# Altium schematic symbol library MySchLib.SchLib: 286 symbols (part 3 of 5)
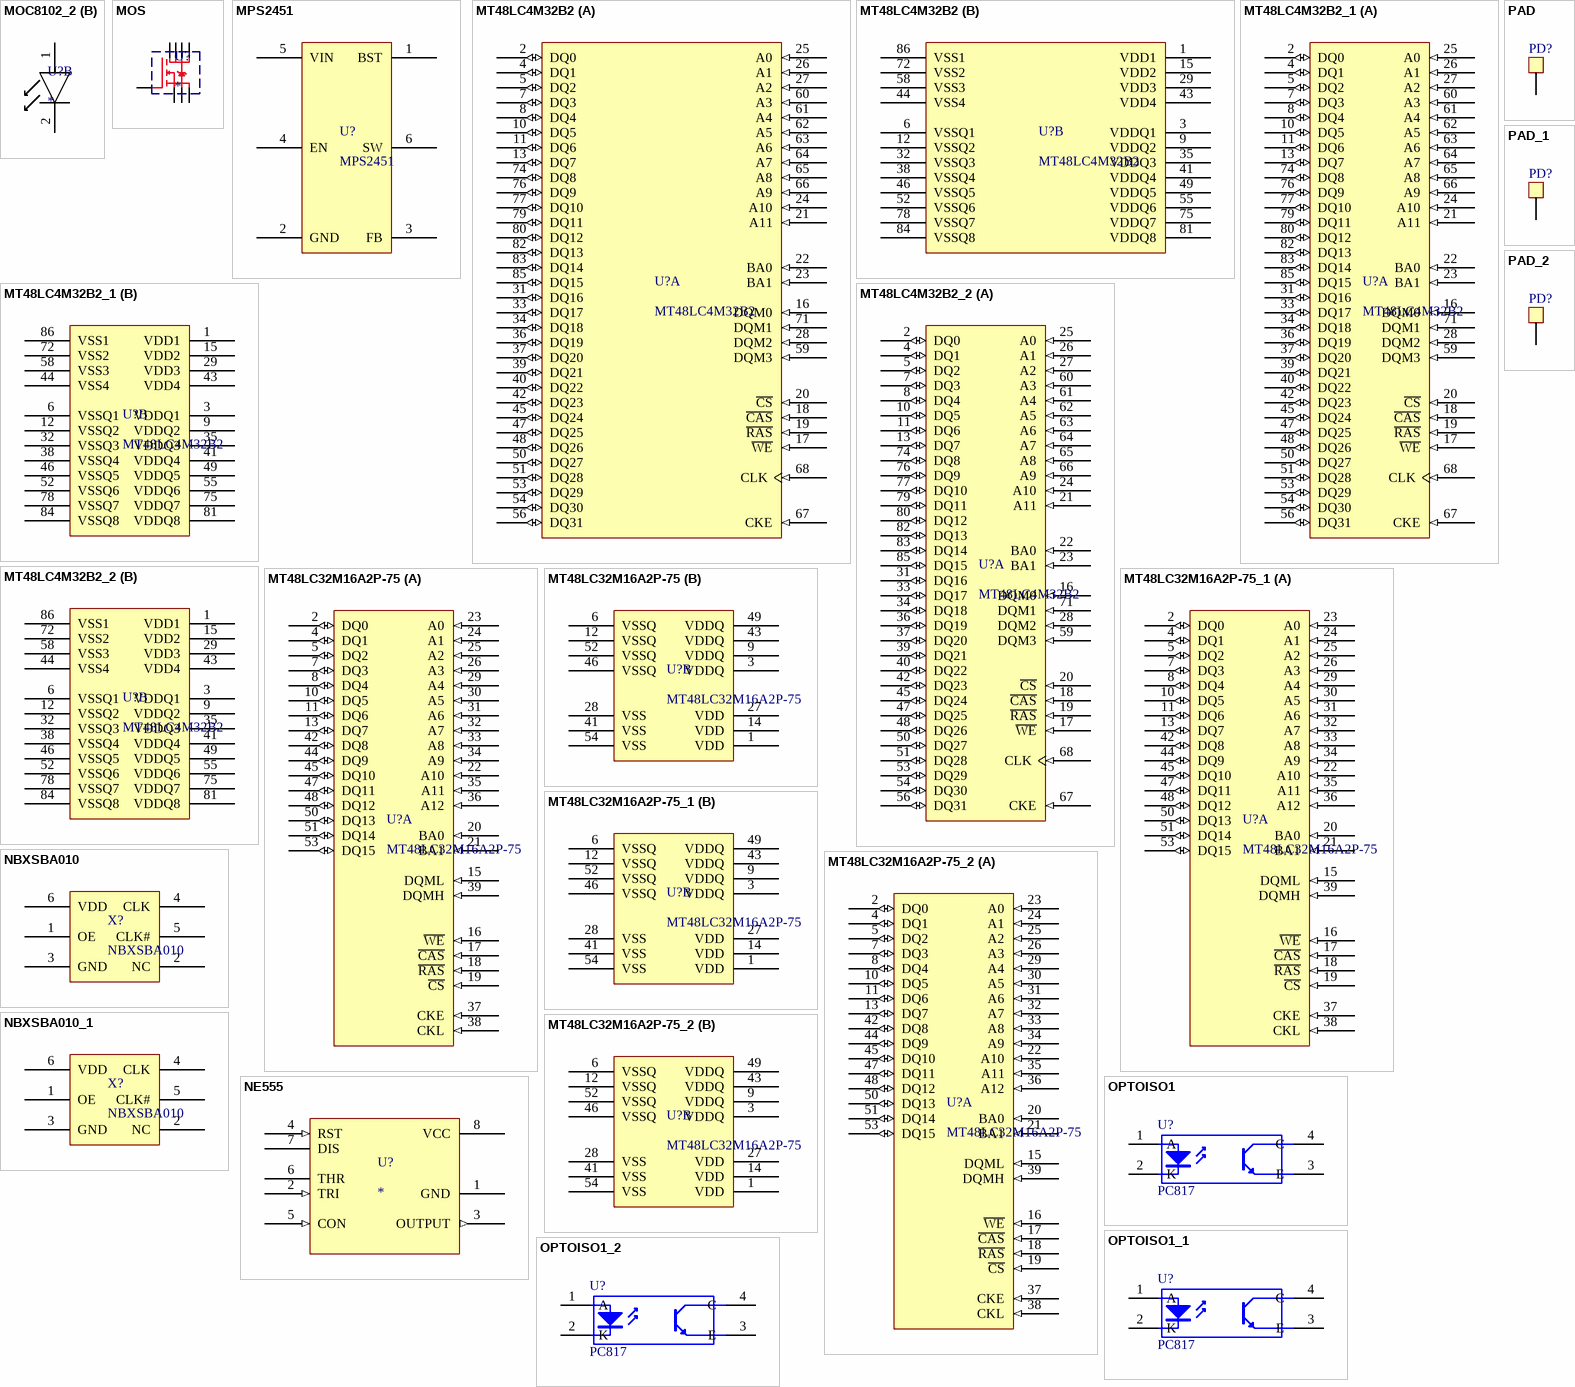
[diagram p31: symbols MOC8102_2 to PAD_2]

## MT48LC32M16A2P-75_2
designator U?, comment MT48LC32M16A2P-75
footprint TSOP54 (Footprint not found)
part A pins: 2 DQ0 (io), 4 DQ1 (io), 5 DQ2 (io), 7 DQ3 (io), 8 DQ4 (io), 10 DQ5 (io), 11 DQ6 (io), 13 DQ7 (io), 15 DQML (in), 16 ~{WE} (in), 17 ~{CAS} (in), 18 ~{RAS} (in), 19 ~{CS} (in), 20 BA0 (in), 21 BA1 (in), 22 A10 (in), 23 A0 (in), 24 A1 (in), 25 A2 (in), 26 A3 (in), 29 A4 (in), 30 A5 (in), 31 A6 (in), 32 A7 (in), 33 A8 (in), 34 A9 (in), 35 A11 (in), 36 A12 (in), 37 CKE (in), 38 CKL (in), 39 DQMH (in), 42 DQ8 (io), 44 DQ9 (io), 45 DQ10 (io), 47 DQ11 (io), 48 DQ12 (io), 50 DQ13 (io), 51 DQ14 (io), 53 DQ15 (io)
part B pins: 1 VDD (power), 3 VDDQ (power), 6 VSSQ (power), 9 VDDQ (power), 12 VSSQ (power), 14 VDD (power), 27 VDD (power), 28 VSS (power), 41 VSS (power), 43 VDDQ (power), 46 VSSQ (power), 49 VDDQ (power), 52 VSSQ (power), 54 VSS (power)

## NBXSBA010
designator X?
pins: 1 OE, 2 NC, 3 GND, 4 CLK, 5 CLK#, 6 VDD

## NBXSBA010_1
designator X?, comment NBXSBA010
pins: 1 OE, 2 NC, 3 GND, 4 CLK, 5 CLK#, 6 VDD

## NE555
designator U?
555 Timer
footprint DIP8
footprint SOP-8
pins: 1 GND (power), 2 TRI (in), 3 OUTPUT (out), 4 RST (in), 5 CON (in), 6 THR, 7 DIS, 8 VCC (power)

## OPTOISO1
designator U?, comment PC817
Optoisolator
footprint PDIP4
pins: 1 A, 2 K, 3 E, 4 C
2 alternate drawings of the same symbol

## OPTOISO1_1
designator U?, comment PC817
Optoisolator
footprint PDIP4
pins: 1 A, 2 K, 3 E, 4 C
2 alternate drawings of the same symbol

## OPTOISO1_2
designator U?, comment PC817
Optoisolator
footprint PDIP4
pins: 1 A, 2 K, 3 E, 4 C
2 alternate drawings of the same symbol

## PAD
designator PD?  (value not drawn)
footprint PAD5 (Footprint not found)
pins: 1

## PAD_1
designator PD?, comment PAD  (value not drawn)
footprint PAD5 (Footprint not found)
pins: 1

## PAD_2
designator PD?, comment PAD  (value not drawn)
footprint PAD5 (Footprint not found)
pins: 1

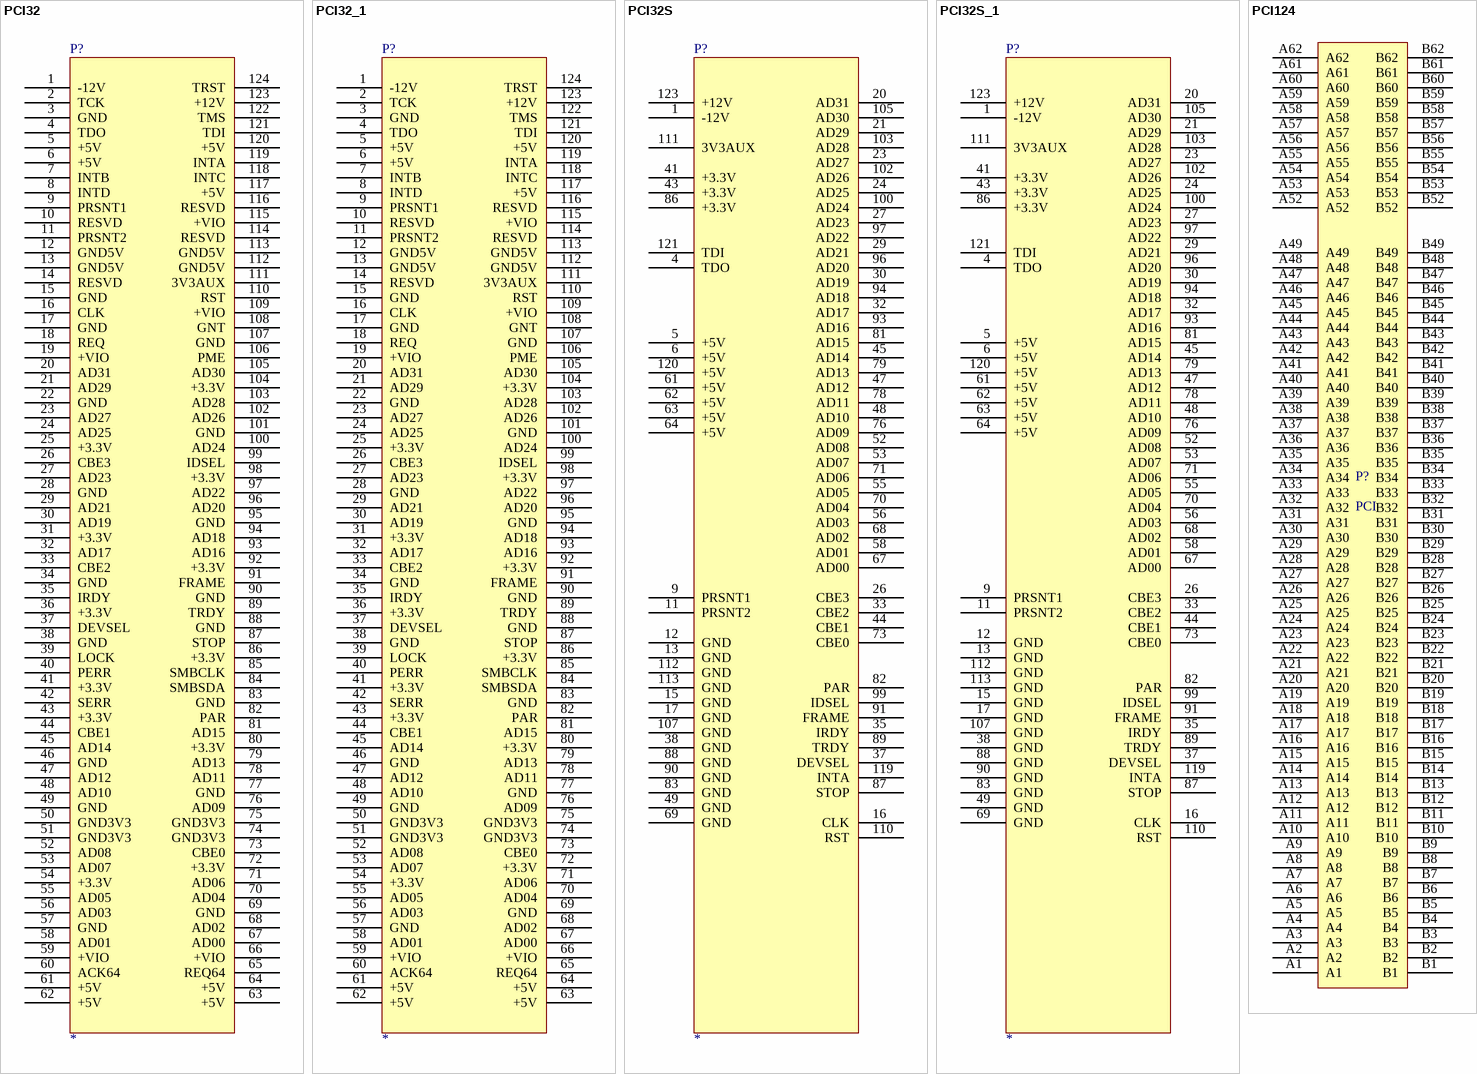
[diagram p12: symbols PCI32 to PCI124]

## PCI32
designator P?
32Bit PCI Bus
footprint PCI32
pins: 1 -12V, 2 TCK, 3 GND, 4 TDO, 5 +5V, 6 +5V, 7 INTB, 8 INTD, 9 PRSNT1, 10 RESVD, 11 PRSNT2, 12 GND5V, 13 GND5V, 14 RESVD, 15 GND, 16 CLK, 17 GND, 18 REQ, 19 +VIO, 20 AD31, 21 AD29, 22 GND, 23 AD27, 24 AD25, 25 +3.3V, 26 CBE3, 27 AD23, 28 GND, 29 AD21, 30 AD19, 31 +3.3V, 32 AD17, 33 CBE2, 34 GND, 35 IRDY, 36 +3.3V, 37 DEVSEL, 38 GND, 39 LOCK, 40 PERR, 41 +3.3V, 42 SERR, 43 +3.3V, 44 CBE1, 45 AD14, 46 GND, 47 AD12, 48 AD10, 49 GND, 50 GND3V3, 51 GND3V3, 52 AD08, 53 AD07, 54 +3.3V, 55 AD05, 56 AD03, 57 GND, 58 AD01, 59 +VIO, 60 ACK64, 61 +5V, 62 +5V, 63 +5V, 64 +5V, 65 REQ64, 66 +VIO, 67 AD00, 68 AD02, 69 GND, 70 AD04, 71 AD06, 72 +3.3V, 73 CBE0, 74 GND3V3, 75 GND3V3, 76 AD09, 77 GND, 78 AD11, 79 AD13, 80 +3.3V, 81 AD15, 82 PAR, 83 GND, 84 SMBSDA, 85 SMBCLK, 86 +3.3V, 87 STOP, 88 GND, 89 TRDY, 90 GND, 91 FRAME, 92 +3.3V, 93 AD16, 94 AD18, 95 GND, 96 AD20, 97 AD22, 98 +3.3V, 99 IDSEL, 100 AD24, 101 GND, 102 AD26, 103 AD28, 104 +3.3V, 105 AD30, 106 PME, 107 GND, 108 GNT, 109 +VIO, 110 RST, 111 3V3AUX, 112 GND5V, 113 GND5V, 114 RESVD, 115 +VIO, 116 RESVD, 117 +5V, 118 INTC, 119 INTA, 120 +5V, 121 TDI, 122 TMS, 123 +12V, 124 TRST

## PCI32_1
designator P?
32Bit PCI Bus
footprint PCI32
pins: 1 -12V, 2 TCK, 3 GND, 4 TDO, 5 +5V, 6 +5V, 7 INTB, 8 INTD, 9 PRSNT1, 10 RESVD, 11 PRSNT2, 12 GND5V, 13 GND5V, 14 RESVD, 15 GND, 16 CLK, 17 GND, 18 REQ, 19 +VIO, 20 AD31, 21 AD29, 22 GND, 23 AD27, 24 AD25, 25 +3.3V, 26 CBE3, 27 AD23, 28 GND, 29 AD21, 30 AD19, 31 +3.3V, 32 AD17, 33 CBE2, 34 GND, 35 IRDY, 36 +3.3V, 37 DEVSEL, 38 GND, 39 LOCK, 40 PERR, 41 +3.3V, 42 SERR, 43 +3.3V, 44 CBE1, 45 AD14, 46 GND, 47 AD12, 48 AD10, 49 GND, 50 GND3V3, 51 GND3V3, 52 AD08, 53 AD07, 54 +3.3V, 55 AD05, 56 AD03, 57 GND, 58 AD01, 59 +VIO, 60 ACK64, 61 +5V, 62 +5V, 63 +5V, 64 +5V, 65 REQ64, 66 +VIO, 67 AD00, 68 AD02, 69 GND, 70 AD04, 71 AD06, 72 +3.3V, 73 CBE0, 74 GND3V3, 75 GND3V3, 76 AD09, 77 GND, 78 AD11, 79 AD13, 80 +3.3V, 81 AD15, 82 PAR, 83 GND, 84 SMBSDA, 85 SMBCLK, 86 +3.3V, 87 STOP, 88 GND, 89 TRDY, 90 GND, 91 FRAME, 92 +3.3V, 93 AD16, 94 AD18, 95 GND, 96 AD20, 97 AD22, 98 +3.3V, 99 IDSEL, 100 AD24, 101 GND, 102 AD26, 103 AD28, 104 +3.3V, 105 AD30, 106 PME, 107 GND, 108 GNT, 109 +VIO, 110 RST, 111 3V3AUX, 112 GND5V, 113 GND5V, 114 RESVD, 115 +VIO, 116 RESVD, 117 +5V, 118 INTC, 119 INTA, 120 +5V, 121 TDI, 122 TMS, 123 +12V, 124 TRST

## PCI32S
designator P?
32Bit PCI Bus, simple / short card
footprint PCI32
footprint PCI32S
pins: 1 -12V, 4 TDO, 5 +5V, 6 +5V, 9 PRSNT1, 11 PRSNT2, 12 GND, 13 GND, 15 GND, 16 CLK, 17 GND, 20 AD31, 21 AD29, 23 AD27, 24 AD25, 26 CBE3, 27 AD23, 29 AD21, 30 AD19, 32 AD17, 33 CBE2, 35 IRDY, 37 DEVSEL, 38 GND, 41 +3.3V, 43 +3.3V, 44 CBE1, 45 AD14, 47 AD12, 48 AD10, 49 GND, 52 AD08, 53 AD07, 55 AD05, 56 AD03, 58 AD01, 61 +5V, 62 +5V, 63 +5V, 64 +5V, 67 AD00, 68 AD02, 69 GND, 70 AD04, 71 AD06, 73 CBE0, 76 AD09, 78 AD11, 79 AD13, 81 AD15, 82 PAR, 83 GND, 86 +3.3V, 87 STOP, 88 GND, 89 TRDY, 90 GND, 91 FRAME, 93 AD16, 94 AD18, 96 AD20, 97 AD22, 99 IDSEL, 100 AD24, 102 AD26, 103 AD28, 105 AD30, 107 GND, 110 RST, 111 3V3AUX, 112 GND, 113 GND, 119 INTA, 120 +5V, 121 TDI, 123 +12V

## PCI32S_1
designator P?
32Bit PCI Bus, simple / short card
footprint PCI32
footprint PCI32S
pins: 1 -12V, 4 TDO, 5 +5V, 6 +5V, 9 PRSNT1, 11 PRSNT2, 12 GND, 13 GND, 15 GND, 16 CLK, 17 GND, 20 AD31, 21 AD29, 23 AD27, 24 AD25, 26 CBE3, 27 AD23, 29 AD21, 30 AD19, 32 AD17, 33 CBE2, 35 IRDY, 37 DEVSEL, 38 GND, 41 +3.3V, 43 +3.3V, 44 CBE1, 45 AD14, 47 AD12, 48 AD10, 49 GND, 52 AD08, 53 AD07, 55 AD05, 56 AD03, 58 AD01, 61 +5V, 62 +5V, 63 +5V, 64 +5V, 67 AD00, 68 AD02, 69 GND, 70 AD04, 71 AD06, 73 CBE0, 76 AD09, 78 AD11, 79 AD13, 81 AD15, 82 PAR, 83 GND, 86 +3.3V, 87 STOP, 88 GND, 89 TRDY, 90 GND, 91 FRAME, 93 AD16, 94 AD18, 96 AD20, 97 AD22, 99 IDSEL, 100 AD24, 102 AD26, 103 AD28, 105 AD30, 107 GND, 110 RST, 111 3V3AUX, 112 GND, 113 GND, 119 INTA, 120 +5V, 121 TDI, 123 +12V

## PCI124
designator P?, comment PCI
footprint PCI-124
pins: A1, A2, A3, A4, A5, A6, A7, A8, A9, A10, A11, A12, A13, A14, A15, A16, A17, A18, A19, A20, A21, A22, A23, A24, A25, A26, A27, A28, A29, A30, A31, A32, A33, A34, A35, A36, A37, A38, A39, A40, A41, A42, A43, A44, A45, A46, A47, A48, A49, A52, A53, A54, A55, A56, A57, A58, A59, A60, A61, A62, B1, B2, B3, B4, B5, B6, B7, B8, B9, B10, B11, B12, B13, B14, B15, B16, B17, B18, B19, B20, B21, B22, B23, B24, B25, B26, B27, B28, B29, B30, B31, B32, B33, B34, B35, B36, B37, B38, B39, B40, B41, B42, B43, B44, B45, B46, B47, B48, B49, B52, B53, B54, B55, B56, B57, B58, B59, B60, B61, B62

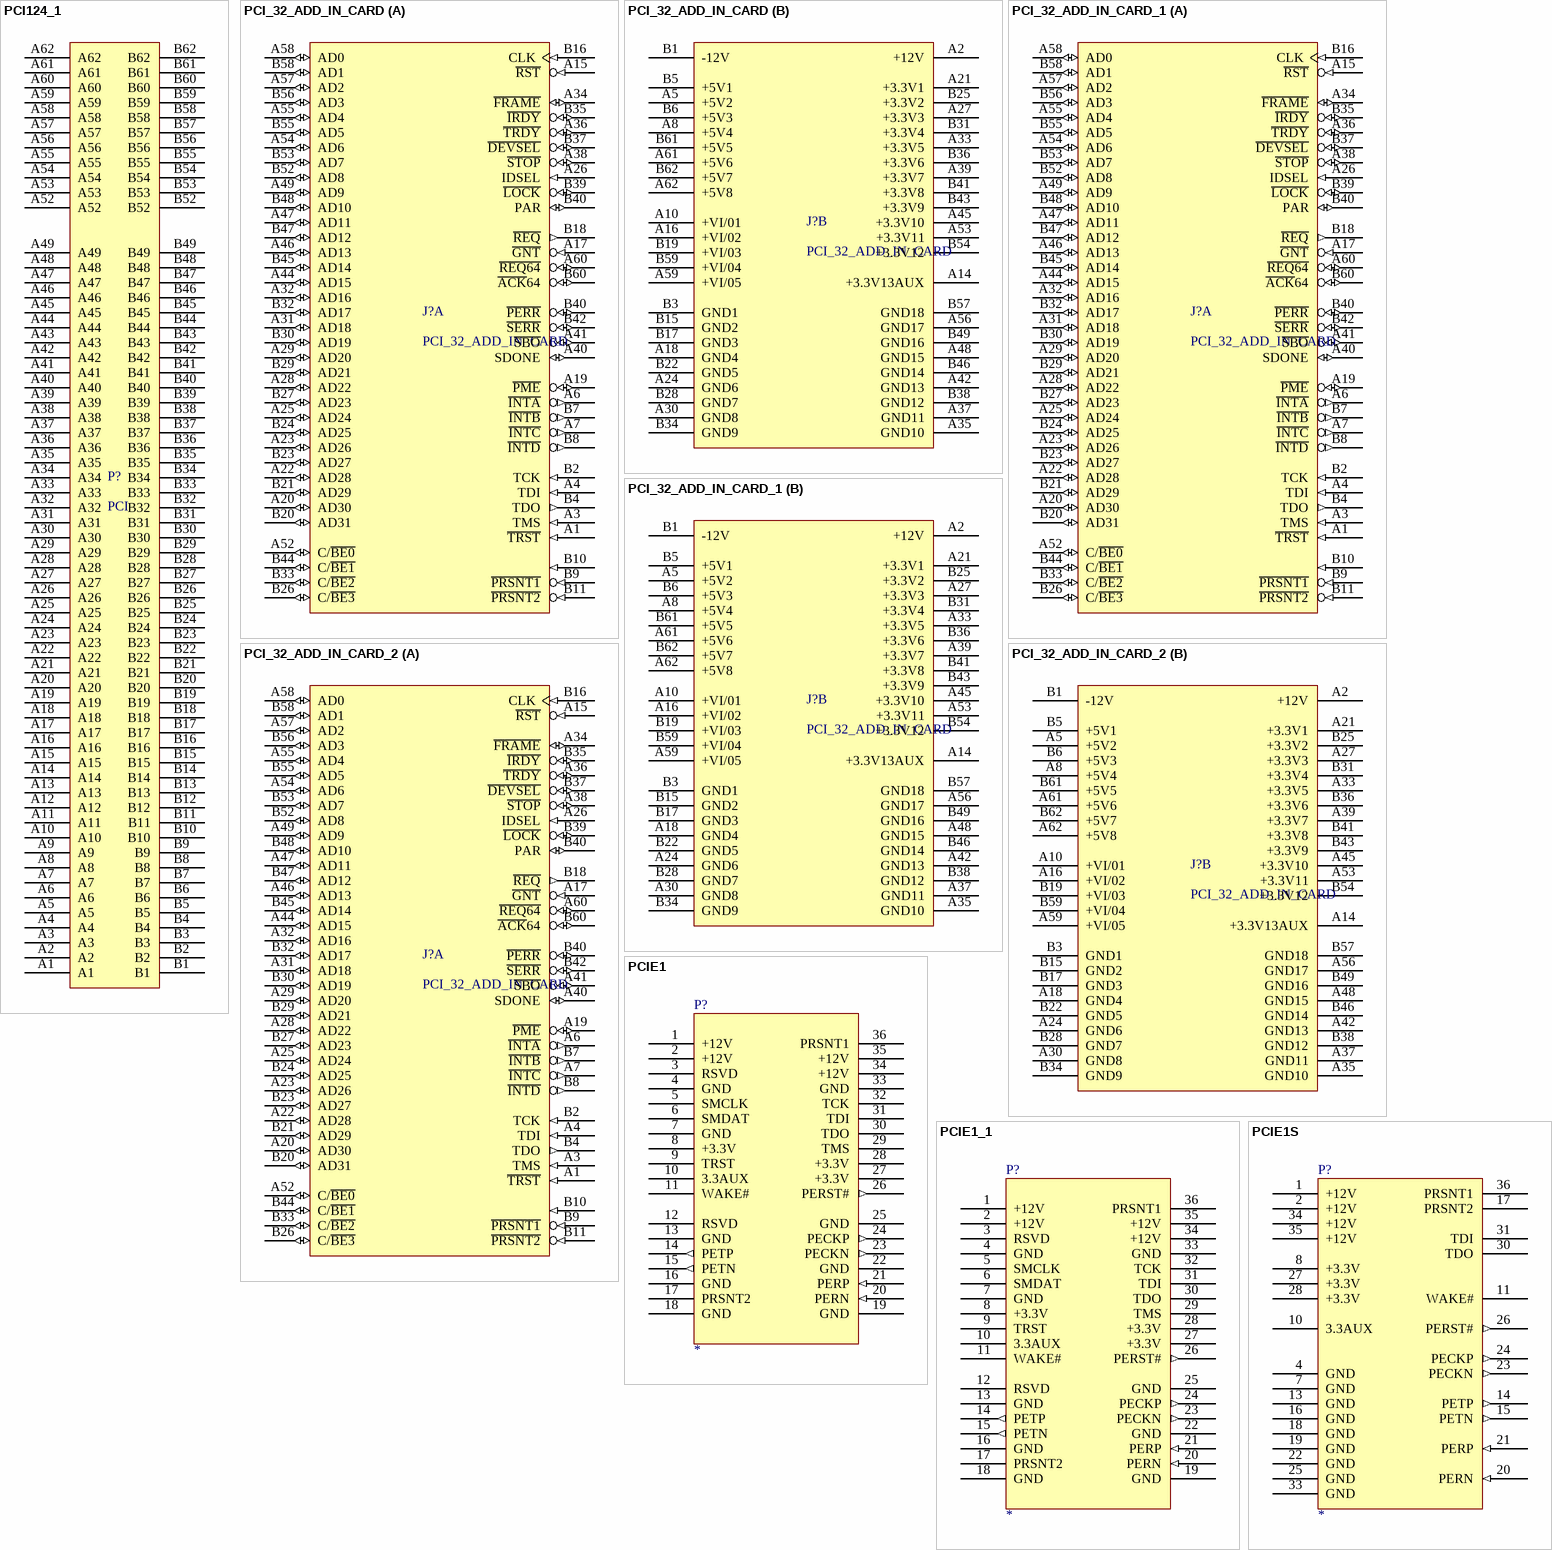
[diagram p13: symbols PCI124_1 to PCIE1S]

## PCI124_1
designator P?, comment PCI
footprint PCI-124
pins: A1, A2, A3, A4, A5, A6, A7, A8, A9, A10, A11, A12, A13, A14, A15, A16, A17, A18, A19, A20, A21, A22, A23, A24, A25, A26, A27, A28, A29, A30, A31, A32, A33, A34, A35, A36, A37, A38, A39, A40, A41, A42, A43, A44, A45, A46, A47, A48, A49, A52, A53, A54, A55, A56, A57, A58, A59, A60, A61, A62, B1, B2, B3, B4, B5, B6, B7, B8, B9, B10, B11, B12, B13, B14, B15, B16, B17, B18, B19, B20, B21, B22, B23, B24, B25, B26, B27, B28, B29, B30, B31, B32, B33, B34, B35, B36, B37, B38, B39, B40, B41, B42, B43, B44, B45, B46, B47, B48, B49, B52, B53, B54, B55, B56, B57, B58, B59, B60, B61, B62

## PCI_32_ADD_IN_CARD
designator J?
PCI ADD IN CARD
part A pins: A1 ~{TRST} (in), A3 TMS (in), A4 TDI (in), A6 ~{INTA} (out), A7 ~{INTC} (out), A15 ~{RST} (in), A17 ~{GNT} (in), A19 ~{PME} (io), A20 AD30 (io), A22 AD28 (io), A23 AD26 (io), A25 AD24 (io), A26 IDSEL (in), A28 AD22 (io), A29 AD20 (io), A31 AD18 (io), A32 AD16 (io), A34 ~{FRAME} (io), A36 ~{TRDY} (io), A38 ~{STOP} (io), A40 SDONE (io), A41 ~{SBO} (io), A44 AD15 (io), A46 AD13 (io), A47 AD11 (io), A49 AD9 (io), A52 C/~{BE0} (io), A54 AD6 (io), A55 AD4 (io), A57 AD2 (io), A58 AD0 (io), A60 ~{REQ64} (io), B2 TCK (in), B4 TDO (out), B7 ~{INTB} (out), B8 ~{INTD} (out), B9 ~{PRSNT1} (in), B10 (in), B11 ~{PRSNT2} (in), B16 CLK (in), B18 ~{REQ} (out), B20 AD31 (io), B21 AD29 (io), B23 AD27 (io), B24 AD25 (io), B26 C/~{BE3} (io), B27 AD23 (io), B29 AD21 (io), B30 AD19 (io), B32 AD17 (io), B33 C/~{BE2} (io), B35 ~{IRDY} (io), B37 ~{DEVSEL} (io), B39 ~{LOCK} (io), B40 PAR (io), B40 ~{PERR} (io), B42 ~{SERR} (io), B44 C/~{BE1} (io), B45 AD14 (io), B47 AD12 (io), B48 AD10 (io), B52 AD8 (io), B53 AD7 (io), B55 AD5 (io), B56 AD3 (io), B58 AD1 (io), B60 ~{ACK}64 (io)
part B pins: A2 +12V (power), A5 +5V2 (power), A8 +5V4 (power), A10 +VI/01 (power), A14 +3.3V13AUX (power), A16 +VI/02 (power), A18 GND4 (power), A21 +3.3V1 (power), A24 GND6 (power), A27 +3.3V3 (power), A30 GND8 (power), A33 +3.3V5 (power), A35 GND10 (power), A37 GND11 (power), A39 +3.3V7 (power), A42 GND13 (power), A45 +3.3V10 (power), A48 GND15 (power), A53 +3.3V11 (power), A56 GND17 (power), A59 +VI/05 (power), A61 +5V6 (power), A62 +5V8 (power), B1 -12V (power), B3 GND1 (power), B5 +5V1 (power), B6 +5V3 (power), B15 GND2 (power), B17 GND3 (power), B19 +VI/03 (power), B22 GND5 (power), B25 +3.3V2 (power), B28 GND7 (power), B31 +3.3V4 (power), B34 GND9 (power), B36 +3.3V6 (power), B38 GND12 (power), B41 +3.3V8 (power), B43 +3.3V9 (power), B46 GND14 (power), B49 GND16 (power), B54 +3.3V12 (power), B57 GND18 (power), B59 +VI/04 (power), B61 +5V5 (power), B62 +5V7 (power)

## PCI_32_ADD_IN_CARD_1
designator J?, comment PCI_32_ADD_IN_CARD
PCI ADD IN CARD
part A pins: A1 ~{TRST} (in), A3 TMS (in), A4 TDI (in), A6 ~{INTA} (out), A7 ~{INTC} (out), A15 ~{RST} (in), A17 ~{GNT} (in), A19 ~{PME} (io), A20 AD30 (io), A22 AD28 (io), A23 AD26 (io), A25 AD24 (io), A26 IDSEL (in), A28 AD22 (io), A29 AD20 (io), A31 AD18 (io), A32 AD16 (io), A34 ~{FRAME} (io), A36 ~{TRDY} (io), A38 ~{STOP} (io), A40 SDONE (io), A41 ~{SBO} (io), A44 AD15 (io), A46 AD13 (io), A47 AD11 (io), A49 AD9 (io), A52 C/~{BE0} (io), A54 AD6 (io), A55 AD4 (io), A57 AD2 (io), A58 AD0 (io), A60 ~{REQ64} (io), B2 TCK (in), B4 TDO (out), B7 ~{INTB} (out), B8 ~{INTD} (out), B9 ~{PRSNT1} (in), B10 (in), B11 ~{PRSNT2} (in), B16 CLK (in), B18 ~{REQ} (out), B20 AD31 (io), B21 AD29 (io), B23 AD27 (io), B24 AD25 (io), B26 C/~{BE3} (io), B27 AD23 (io), B29 AD21 (io), B30 AD19 (io), B32 AD17 (io), B33 C/~{BE2} (io), B35 ~{IRDY} (io), B37 ~{DEVSEL} (io), B39 ~{LOCK} (io), B40 PAR (io), B40 ~{PERR} (io), B42 ~{SERR} (io), B44 C/~{BE1} (io), B45 AD14 (io), B47 AD12 (io), B48 AD10 (io), B52 AD8 (io), B53 AD7 (io), B55 AD5 (io), B56 AD3 (io), B58 AD1 (io), B60 ~{ACK}64 (io)
part B pins: A2 +12V (power), A5 +5V2 (power), A8 +5V4 (power), A10 +VI/01 (power), A14 +3.3V13AUX (power), A16 +VI/02 (power), A18 GND4 (power), A21 +3.3V1 (power), A24 GND6 (power), A27 +3.3V3 (power), A30 GND8 (power), A33 +3.3V5 (power), A35 GND10 (power), A37 GND11 (power), A39 +3.3V7 (power), A42 GND13 (power), A45 +3.3V10 (power), A48 GND15 (power), A53 +3.3V11 (power), A56 GND17 (power), A59 +VI/05 (power), A61 +5V6 (power), A62 +5V8 (power), B1 -12V (power), B3 GND1 (power), B5 +5V1 (power), B6 +5V3 (power), B15 GND2 (power), B17 GND3 (power), B19 +VI/03 (power), B22 GND5 (power), B25 +3.3V2 (power), B28 GND7 (power), B31 +3.3V4 (power), B34 GND9 (power), B36 +3.3V6 (power), B38 GND12 (power), B41 +3.3V8 (power), B43 +3.3V9 (power), B46 GND14 (power), B49 GND16 (power), B54 +3.3V12 (power), B57 GND18 (power), B59 +VI/04 (power), B61 +5V5 (power), B62 +5V7 (power)

## PCI_32_ADD_IN_CARD_2
designator J?, comment PCI_32_ADD_IN_CARD
PCI ADD IN CARD
part A pins: A1 ~{TRST} (in), A3 TMS (in), A4 TDI (in), A6 ~{INTA} (out), A7 ~{INTC} (out), A15 ~{RST} (in), A17 ~{GNT} (in), A19 ~{PME} (io), A20 AD30 (io), A22 AD28 (io), A23 AD26 (io), A25 AD24 (io), A26 IDSEL (in), A28 AD22 (io), A29 AD20 (io), A31 AD18 (io), A32 AD16 (io), A34 ~{FRAME} (io), A36 ~{TRDY} (io), A38 ~{STOP} (io), A40 SDONE (io), A41 ~{SBO} (io), A44 AD15 (io), A46 AD13 (io), A47 AD11 (io), A49 AD9 (io), A52 C/~{BE0} (io), A54 AD6 (io), A55 AD4 (io), A57 AD2 (io), A58 AD0 (io), A60 ~{REQ64} (io), B2 TCK (in), B4 TDO (out), B7 ~{INTB} (out), B8 ~{INTD} (out), B9 ~{PRSNT1} (in), B10 (in), B11 ~{PRSNT2} (in), B16 CLK (in), B18 ~{REQ} (out), B20 AD31 (io), B21 AD29 (io), B23 AD27 (io), B24 AD25 (io), B26 C/~{BE3} (io), B27 AD23 (io), B29 AD21 (io), B30 AD19 (io), B32 AD17 (io), B33 C/~{BE2} (io), B35 ~{IRDY} (io), B37 ~{DEVSEL} (io), B39 ~{LOCK} (io), B40 PAR (io), B40 ~{PERR} (io), B42 ~{SERR} (io), B44 C/~{BE1} (io), B45 AD14 (io), B47 AD12 (io), B48 AD10 (io), B52 AD8 (io), B53 AD7 (io), B55 AD5 (io), B56 AD3 (io), B58 AD1 (io), B60 ~{ACK}64 (io)
part B pins: A2 +12V (power), A5 +5V2 (power), A8 +5V4 (power), A10 +VI/01 (power), A14 +3.3V13AUX (power), A16 +VI/02 (power), A18 GND4 (power), A21 +3.3V1 (power), A24 GND6 (power), A27 +3.3V3 (power), A30 GND8 (power), A33 +3.3V5 (power), A35 GND10 (power), A37 GND11 (power), A39 +3.3V7 (power), A42 GND13 (power), A45 +3.3V10 (power), A48 GND15 (power), A53 +3.3V11 (power), A56 GND17 (power), A59 +VI/05 (power), A61 +5V6 (power), A62 +5V8 (power), B1 -12V (power), B3 GND1 (power), B5 +5V1 (power), B6 +5V3 (power), B15 GND2 (power), B17 GND3 (power), B19 +VI/03 (power), B22 GND5 (power), B25 +3.3V2 (power), B28 GND7 (power), B31 +3.3V4 (power), B34 GND9 (power), B36 +3.3V6 (power), B38 GND12 (power), B41 +3.3V8 (power), B43 +3.3V9 (power), B46 GND14 (power), B49 GND16 (power), B54 +3.3V12 (power), B57 GND18 (power), B59 +VI/04 (power), B61 +5V5 (power), B62 +5V7 (power)

## PCIE1
designator P?
PCIe Bus 1X
footprint PCIE1
pins: 1 +12V (power), 2 +12V (power), 3 RSVD, 4 GND (power), 5 SMCLK, 6 SMDAT, 7 GND (power), 8 +3.3V (power), 9 TRST, 10 3.3AUX (power), 11 WAKE#, 12 RSVD, 13 GND (power), 14 PETP (out), 15 PETN (out), 16 GND (power), 17 PRSNT2, 18 GND (power), 19 GND (power), 20 PERN (in), 21 PERP (in), 22 GND (power), 23 PECKN (out), 24 PECKP (out), 25 GND (power), 26 PERST# (out), 27 +3.3V (power), 28 +3.3V (power), 29 TMS, 30 TDO, 31 TDI, 32 TCK, 33 GND (power), 34 +12V (power), 35 +12V (power), 36 PRSNT1

## PCIE1_1
designator P?
PCIe Bus 1X
footprint PCIE1
pins: 1 +12V (power), 2 +12V (power), 3 RSVD, 4 GND (power), 5 SMCLK, 6 SMDAT, 7 GND (power), 8 +3.3V (power), 9 TRST, 10 3.3AUX (power), 11 WAKE#, 12 RSVD, 13 GND (power), 14 PETP (out), 15 PETN (out), 16 GND (power), 17 PRSNT2, 18 GND (power), 19 GND (power), 20 PERN (in), 21 PERP (in), 22 GND (power), 23 PECKN (out), 24 PECKP (out), 25 GND (power), 26 PERST# (out), 27 +3.3V (power), 28 +3.3V (power), 29 TMS, 30 TDO, 31 TDI, 32 TCK, 33 GND (power), 34 +12V (power), 35 +12V (power), 36 PRSNT1

## PCIE1S
designator P?
PCIe Bus 1X, simple
footprint PCIE1
pins: 1 +12V (power), 2 +12V (power), 4 GND (power), 7 GND (power), 8 +3.3V (power), 10 3.3AUX (power), 11 WAKE#, 13 GND (power), 14 PETP (out), 15 PETN (out), 16 GND (power), 17 PRSNT2, 18 GND (power), 19 GND (power), 20 PERN (in), 21 PERP (in), 22 GND (power), 23 PECKN (out), 24 PECKP (out), 25 GND (power), 26 PERST# (out), 27 +3.3V (power), 28 +3.3V (power), 30 TDO, 31 TDI, 33 GND (power), 34 +12V (power), 35 +12V (power), 36 PRSNT1

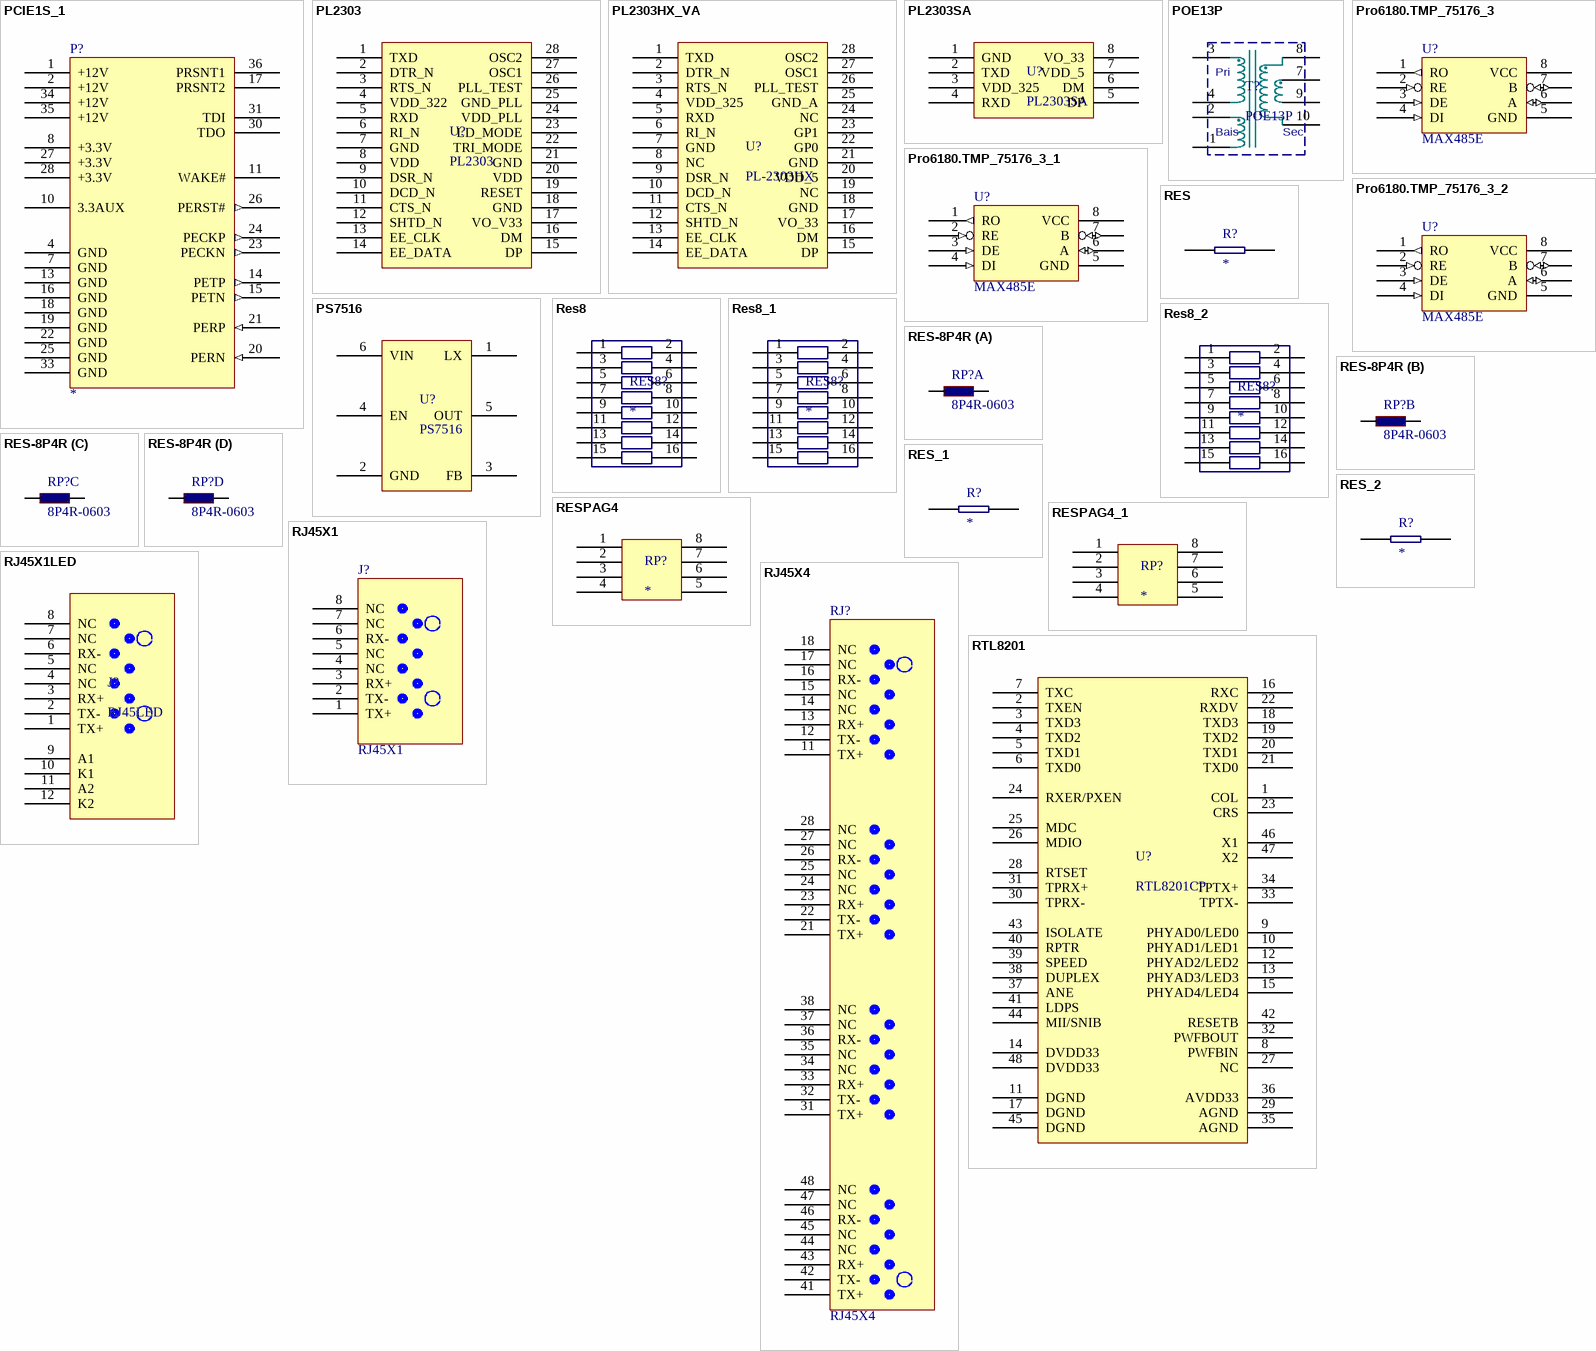
[diagram p14: symbols PCIE1S_1 to RTL8201]

## PCIE1S_1
designator P?
PCIe Bus 1X, simple
footprint PCIE1
pins: 1 +12V (power), 2 +12V (power), 4 GND (power), 7 GND (power), 8 +3.3V (power), 10 3.3AUX (power), 11 WAKE#, 13 GND (power), 14 PETP (out), 15 PETN (out), 16 GND (power), 17 PRSNT2, 18 GND (power), 19 GND (power), 20 PERN (in), 21 PERP (in), 22 GND (power), 23 PECKN (out), 24 PECKP (out), 25 GND (power), 26 PERST# (out), 27 +3.3V (power), 28 +3.3V (power), 30 TDO, 31 TDI, 33 GND (power), 34 +12V (power), 35 +12V (power), 36 PRSNT1

## PL2303
designator U?
footprint SSOP28
pins: 1 TXD, 2 DTR_N, 3 RTS_N, 4 VDD_322, 5 RXD, 6 RI_N, 7 GND, 8 VDD, 9 DSR_N, 10 DCD_N, 11 CTS_N, 12 SHTD_N, 13 EE_CLK, 14 EE_DATA, 15 DP, 16 DM, 17 VO_V33, 18 GND, 19 RESET, 20 VDD, 21 GND, 22 TRI_MODE, 23 LD_MODE, 24 VDD_PLL, 25 GND_PLL, 26 PLL_TEST, 27 OSC1, 28 OSC2

## PL2303HX_VA
designator U?, comment PL-2303HX
pins: 1 TXD, 2 DTR_N, 3 RTS_N, 4 VDD_325, 5 RXD, 6 RI_N, 7 GND, 8 NC, 9 DSR_N, 10 DCD_N, 11 CTS_N, 12 SHTD_N, 13 EE_CLK, 14 EE_DATA, 15 DP, 16 DM, 17 VO_33, 18 GND, 19 NC, 20 VDD_5, 21 GND, 22 GP0, 23 GP1, 24 NC, 25 GND_A, 26 PLL_TEST, 27 OSC1, 28 OSC2

## PL2303SA
designator U?
footprint SOP-8
pins: 1 GND, 2 TXD, 3 VDD_325, 4 RXD, 5 DP, 6 DM, 7 VDD_5, 8 VO_33

## POE13P
designator T?
footprint POE13P (Footprint not found)
pins: 1, 2, 3, 4, 7, 8, 9, 10
text: Pri; Bais; Sec

## Pro6180.TMP_75176_3
designator U?, comment MAX485E
footprint DIP20
footprint SOP-8
footprint PDIP8
pins: 1 RO (out), 2 RE (in), 3 DE (in), 4 DI (in), 5 GND (power), 6 A (io), 7 B (io), 8 VCC (power)
2 alternate drawings of the same symbol

## Pro6180.TMP_75176_3_1
designator U?, comment MAX485E
footprint DIP20
footprint SOP-8
footprint PDIP8
pins: 1 RO (out), 2 RE (in), 3 DE (in), 4 DI (in), 5 GND (power), 6 A (io), 7 B (io), 8 VCC (power)
2 alternate drawings of the same symbol

## Pro6180.TMP_75176_3_2
designator U?, comment MAX485E
footprint DIP20
footprint SOP-8
footprint PDIP8
pins: 1 RO (out), 2 RE (in), 3 DE (in), 4 DI (in), 5 GND (power), 6 A (io), 7 B (io), 8 VCC (power)
2 alternate drawings of the same symbol

## PS7516
designator U?
EMI Certification 2.5A High Efficiency Synchronous PWM Boost Converter
footprint SOT-23-6
pins: 1 LX, 2 GND, 3 FB, 4 EN, 5 OUT, 6 VIN

## RES
designator R?
footprint 0805
footprint 0603 (Footprint not found)
footprint 1206
pins: 1 (power), 2 (power)

## Res8
designator RES8?
pins: 1 (power), 2 (power), 3 (power), 4 (power), 5 (power), 6 (power), 7 (power), 8 (power), 9 (power), 10 (power), 11 (power), 12 (power), 13 (power), 14 (power), 15 (power), 16 (power)

## Res8_1
designator RES8?
pins: 1 (power), 2 (power), 3 (power), 4 (power), 5 (power), 6 (power), 7 (power), 8 (power), 9 (power), 10 (power), 11 (power), 12 (power), 13 (power), 14 (power), 15 (power), 16 (power)

## Res8_2
designator RES8?
pins: 1 (power), 2 (power), 3 (power), 4 (power), 5 (power), 6 (power), 7 (power), 8 (power), 9 (power), 10 (power), 11 (power), 12 (power), 13 (power), 14 (power), 15 (power), 16 (power)

## RES-8P4R
designator RP?, comment 8P4R-0603
footprint 8P4R-0603
part A pins: 1, 8
part B pins: 2, 7
part C pins: 3, 6
part D pins: 4, 5

## RES_1
designator R?
footprint 0805
footprint 0603 (Footprint not found)
footprint 1206
pins: 1 (power), 2 (power)

## RES_2
designator R?
footprint 0805
footprint 0603 (Footprint not found)
footprint 1206
pins: 1 (power), 2 (power)

## RESPAG4
designator RP?
pins: 1, 2, 3, 4, 5, 6, 7, 8

## RESPAG4_1
designator RP?
pins: 1, 2, 3, 4, 5, 6, 7, 8

## RJ45X1
designator J?
footprint Model Name (Footprint not found)
footprint RJ45X1 (Footprint not found)
footprint RJ45X1-Y
pins: 1 TX+, 2 TX-, 3 RX+, 4 NC, 5 NC, 6 RX-, 7 NC, 8 NC

## RJ45X1LED
designator J?, comment RJ45LED
footprint RJ45LED (Footprint not found)
pins: 1 TX+, 2 TX-, 3 RX+, 4 NC, 5 NC, 6 RX-, 7 NC, 8 NC, 9 A1, 10 K1, 11 A2, 12 K2

## RJ45X4
designator RJ?
footprint RJ45X4-Y
pins: 11 TX+, 12 TX-, 13 RX+, 14 NC, 15 NC, 16 RX-, 17 NC, 18 NC, 21 TX+, 22 TX-, 23 RX+, 24 NC, 25 NC, 26 RX-, 27 NC, 28 NC, 31 TX+, 32 TX-, 33 RX+, 34 NC, 35 NC, 36 RX-, 37 NC, 38 NC, 41 TX+, 42 TX-, 43 RX+, 44 NC, 45 NC, 46 RX-, 47 NC, 48 NC

## RTL8201
designator U?, comment RTL8201CP
footprint TQFP36 (Footprint not found)
pins: 1 COL, 2 TXEN, 3 TXD3, 4 TXD2, 5 TXD1, 6 TXD0, 7 TXC, 8 PWFBIN, 9 PHYAD0/LED0, 10 PHYAD1/LED1, 11 DGND, 12 PHYAD2/LED2, 13 PHYAD3/LED3, 14 DVDD33, 15 PHYAD4/LED4, 16 RXC, 17 DGND, 18 TXD3, 19 TXD2, 20 TXD1, 21 TXD0, 22 RXDV, 23 CRS, 24 RXER/PXEN, 25 MDC, 26 MDIO, 27 NC, 28 RTSET, 29 AGND, 30 TPRX-, 31 TPRX+, 32 PWFBOUT, 33 TPTX-, 34 TPTX+, 35 AGND, 36 AVDD33, 37 ANE, 38 DUPLEX, 39 SPEED, 40 RPTR, 41 LDPS, 42 RESETB, 43 ISOLATE, 44 MII/SNIB, 45 DGND, 46 X1, 47 X2, 48 DVDD33

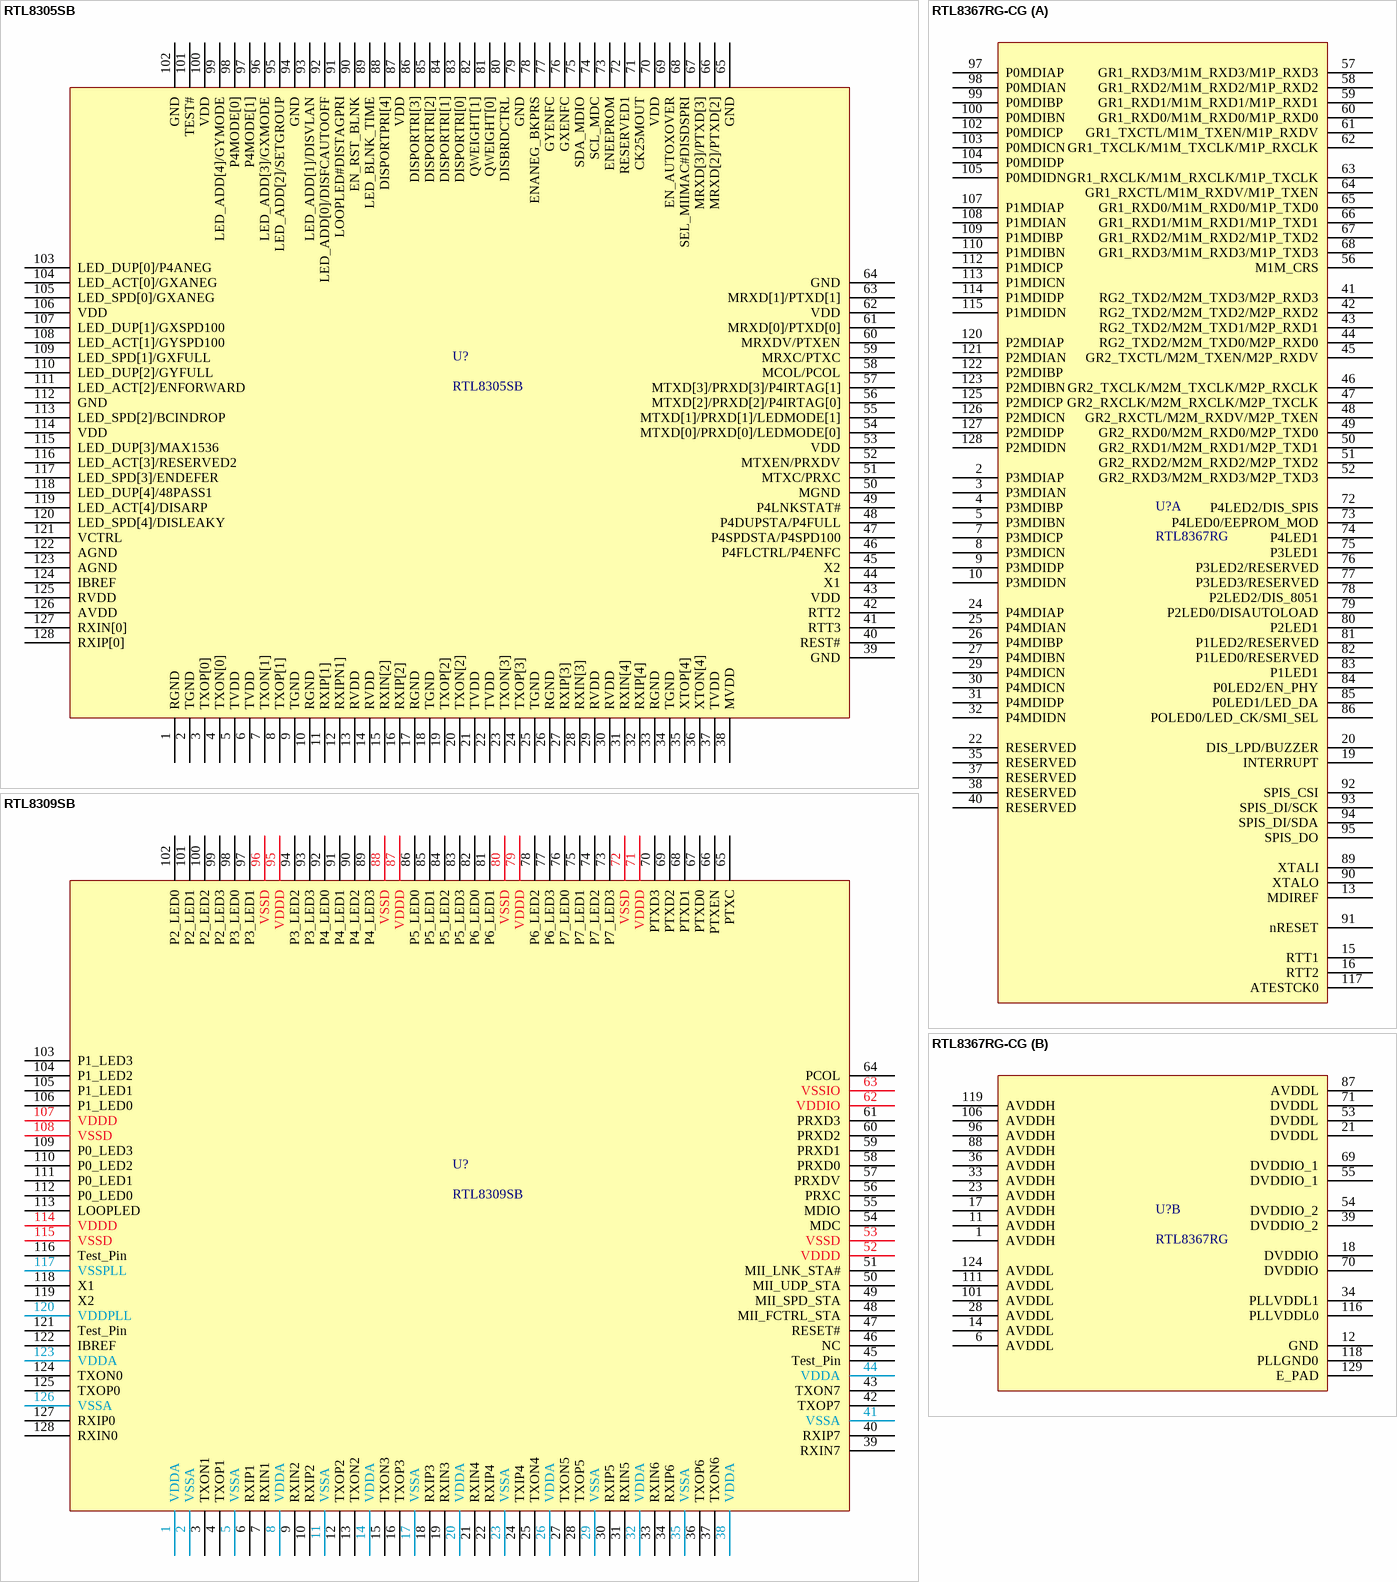
[diagram p15: symbols RTL8305SB to RTL8367RG-CG]

## RTL8305SB
designator U?
footprint LQFP128
footprint PQFP128
pins: 1 RGND, 2 TGND, 3 TXOP[0], 4 TXON[0], 5 TVDD, 6 TVDD, 7 TXON[1], 8 TXOP[1], 9 TGND, 10 RGND, 11 RXIP[1], 12 RXIPN1], 13 RVDD, 14 RVDD, 15 RXIN[2], 16 RXIP[2], 17 RGND, 18 TGND, 19 TXOP[2], 20 TXON[2], 21 TVDD, 22 TVDD, 23 TXON[3], 24 TXOP[3], 25 TGND, 26 RGND, 27 RXIP[3], 28 RXIN[3], 29 RVDD, 30 RVDD, 31 RXIN[4], 32 RXIP[4], 33 RGND, 34 TGND, 35 XTOP[4], 36 XTON[4], 37 TVDD, 38 MVDD, 39 GND, 40 REST#, 41 RTT3, 42 RTT2, 43 VDD, 44 X1, 45 X2, 46 P4FLCTRL/P4ENFC, 47 P4SPDSTA/P4SPD100, 48 P4DUPSTA/P4FULL, 49 P4LNKSTAT#, 50 MGND, 51 MTXC/PRXC, 52 MTXEN/PRXDV, 53 VDD, 54 MTXD[0]/PRXD[0]/LEDMODE[0], 55 MTXD[1]/PRXD[1]/LEDMODE[1], 56 MTXD[2]/PRXD[2]/P4IRTAG[0], 57 MTXD[3]/PRXD[3]/P4IRTAG[1], 58 MCOL/PCOL, 59 MRXC/PTXC, 60 MRXDV/PTXEN, 61 MRXD[0]/PTXD[0], 62 VDD, 63 MRXD[1]/PTXD[1], 64 GND, 65 GND, 66 MRXD[2]/PTXD[2], 67 MRXD[3]/PTXD[3], 68 SEL_MIIMAC#DISDSPRI, 69 EN_AUTOXOVER, 70 VDD, 71 CK25MOUT, 72 RESERVED1, 73 ENEEPROM, 74 SCL_MDC, 75 SDA_MDIO, 76 GXENFC, 77 GYENFC, 78 ENANEG_BKPRS, 79 GND, 80 DISBRDCTRL, 81 QWEIGHT[0], 82 QWEIGHT[1], 83 DISPORTRI[0], 84 DISPORTRI[1], 85 DISPORTRI[2], 86 DISPORTRI[3], 87 VDD, 88 DISPORTPRI[4], 89 LED_BLNK_TIME, 90 EN_RST_BLNK, 91 LOOPLED#DISTAGPRI, 92 LED_ADD[0]/DISFCAUTOOFF, 93 LED_ADD[1]/DISVLAN, 94 GND, 95 LED_ADD[2]/SETGROUP, 96 LED_ADD[3]/GXMODE, 97 P4MODE[1], 98 P4MODE[0], 99 LED_ADD[4]/GYMODE, 100 VDD, 101 TEST#, 102 GND, 103 LED_DUP[0]/P4ANEG, 104 LED_ACT[0]/GXANEG, 105 LED_SPD[0]/GXANEG, 106 VDD, 107 LED_DUP[1]/GXSPD100, 108 LED_ACT[1]/GYSPD100, 109 LED_SPD[1]/GXFULL, 110 LED_DUP[2]/GYFULL, 111 LED_ACT[2]/ENFORWARD, 112 GND, 113 LED_SPD[2]/BCINDROP, 114 VDD, 115 LED_DUP[3]/MAX1536, 116 LED_ACT[3]/RESERVED2, 117 LED_SPD[3]/ENDEFER, 118 LED_DUP[4]/48PASS1, 119 LED_ACT[4]/DISARP, 120 LED_SPD[4]/DISLEAKY, 121 VCTRL, 122 AGND, 123 AGND, 124 IBREF, 125 RVDD, 126 AVDD, 127 RXIN[0], 128 RXIP[0]

## RTL8309SB
designator U?
footprint PQFP128
pins: 1 VDDA, 2 VSSA, 3 TXON1, 4 TXOP1, 5 VSSA, 6 RXIP1, 7 RXIN1, 8 VDDA, 9 RXIN2, 10 RXIP2, 11 VSSA, 12 TXOP2, 13 TXON2, 14 VDDA, 15 TXON3, 16 TXOP3, 17 VSSA, 18 RXIP3, 19 RXIN3, 20 VDDA, 21 RXIN4, 22 RXIP4, 23 VSSA, 24 TXIP4, 25 TXON4, 26 VDDA, 27 TXON5, 28 TXOP5, 29 VSSA, 30 RXIP5, 31 RXIN5, 32 VDDA, 33 RXIN6, 34 RXIP6, 35 VSSA, 36 TXOP6, 37 TXON6, 38 VDDA, 39 RXIN7, 40 RXIP7, 41 VSSA, 42 TXOP7, 43 TXON7, 44 VDDA, 45 Test_Pin, 46 NC, 47 RESET#, 48 MII_FCTRL_STA, 49 MII_SPD_STA, 50 MII_UDP_STA, 51 MII_LNK_STA#, 52 VDDD, 53 VSSD, 54 MDC, 55 MDIO, 56 PRXC, 57 PRXDV, 58 PRXD0, 59 PRXD1, 60 PRXD2, 61 PRXD3, 62 VDDIO, 63 VSSIO, 64 PCOL, 65 PTXC, 66 PTXEN, 67 PTXD0, 68 PTXD1, 69 PTXD2, 70 PTXD3, 71 VDDD, 72 VSSD, 73 P7_LED3, 74 P7_LED2, 75 P7_LED1, 76 P7_LED0, 77 P6_LED3, 78 P6_LED2, 79 VDDD, 80 VSSD, 81 P6_LED1, 82 P6_LED0, 83 P5_LED3, 84 P5_LED2, 85 P5_LED1, 86 P5_LED0, 87 VDDD, 88 VSSD, 89 P4_LED3, 90 P4_LED2, 91 P4_LED1, 92 P4_LED0, 93 P3_LED3, 94 P3_LED2, 95 VDDD, 96 VSSD, 97 P3_LED1, 98 P3_LED0, 99 P2_LED3, 100 P2_LED2, 101 P2_LED1, 102 P2_LED0, 103 P1_LED3, 104 P1_LED2, 105 P1_LED1, 106 P1_LED0, 107 VDDD, 108 VSSD, 109 P0_LED3, 110 P0_LED2, 111 P0_LED1, 112 P0_LED0, 113 LOOPLED, 114 VDDD, 115 VSSD, 116 Test_Pin, 117 VSSPLL, 118 X1, 119 X2, 120 VDDPLL, 121 Test_Pin, 122 IBREF, 123 VDDA, 124 TXON0, 125 TXOP0, 126 VSSA, 127 RXIP0, 128 RXIN0
1 alternate drawing of the same symbol

## RTL8367RG-CG
designator U?, comment RTL8367RG
footprint LQFP128
part A pins: 2 P3MDIAP, 3 P3MDIAN, 4 P3MDIBP, 5 P3MDIBN, 7 P3MDICP, 8 P3MDICN, 9 P3MDIDP, 10 P3MDIDN, 13 MDIREF, 15 RTT1, 16 RTT2, 19 INTERRUPT, 20 DIS_LPD/BUZZER, 22 RESERVED, 24 P4MDIAP, 25 P4MDIAN, 26 P4MDIBP, 27 P4MDIBN, 29 P4MDICN, 30 P4MDICN, 31 P4MDIDP, 32 P4MDIDN, 35 RESERVED, 37 RESERVED, 38 RESERVED, 40 RESERVED, 41 RG2_TXD2/M2M_TXD3/M2P_RXD3, 42 RG2_TXD2/M2M_TXD2/M2P_RXD2, 43 RG2_TXD2/M2M_TXD1/M2P_RXD1, 44 RG2_TXD2/M2M_TXD0/M2P_RXD0, 45 GR2_TXCTL/M2M_TXEN/M2P_RXDV, 46 GR2_TXCLK/M2M_TXCLK/M2P_RXCLK, 47 GR2_RXCLK/M2M_RXCLK/M2P_TXCLK, 48 GR2_RXCTL/M2M_RXDV/M2P_TXEN, 49 GR2_RXD0/M2M_RXD0/M2P_TXD0, 50 GR2_RXD1/M2M_RXD1/M2P_TXD1, 51 GR2_RXD2/M2M_RXD2/M2P_TXD2, 52 GR2_RXD3/M2M_RXD3/M2P_TXD3, 56 M1M_CRS, 57 GR1_RXD3/M1M_RXD3/M1P_RXD3, 58 GR1_RXD2/M1M_RXD2/M1P_RXD2, 59 GR1_RXD1/M1M_RXD1/M1P_RXD1, 60 GR1_RXD0/M1M_RXD0/M1P_RXD0, 61 GR1_TXCTL/M1M_TXEN/M1P_RXDV, 62 GR1_TXCLK/M1M_TXCLK/M1P_RXCLK, 63 GR1_RXCLK/M1M_RXCLK/M1P_TXCLK, 64 GR1_RXCTL/M1M_RXDV/M1P_TXEN, 65 GR1_RXD0/M1M_RXD0/M1P_TXD0, 66 GR1_RXD1/M1M_RXD1/M1P_TXD1, 67 GR1_RXD2/M1M_RXD2/M1P_TXD2, 68 GR1_RXD3/M1M_RXD3/M1P_TXD3, 72 P4LED2/DIS_SPIS, 73 P4LED0/EEPROM_MOD, 74 P4LED1, 75 P3LED1, 76 P3LED2/RESERVED, 77 P3LED3/RESERVED, 78 P2LED2/DIS_8051, 79 P2LED0/DISAUTOLOAD, 80 P2LED1, 81 P1LED2/RESERVED, 82 P1LED0/RESERVED, 83 P1LED1, 84 P0LED2/EN_PHY, 85 P0LED1/LED_DA, 86 POLED0/LED_CK/SMI_SEL, 89 XTALI, 90 XTALO, 91 nRESET, 92 SPIS_CSI, 93 SPIS_DI/SCK, 94 SPIS_DI/SDA, 95 SPIS_DO, 97 P0MDIAP, 98 P0MDIAN, 99 P0MDIBP, 100 P0MDIBN, 102 P0MDICP, 103 P0MDICN, 104 P0MDIDP, 105 P0MDIDN, 107 P1MDIAP, 108 P1MDIAN, 109 P1MDIBP, 110 P1MDIBN, 112 P1MDICP, 113 P1MDICN, 114 P1MDIDP, 115 P1MDIDN, 117 ATESTCK0, 120 P2MDIAP, 121 P2MDIAN, 122 P2MDIBP, 123 P2MDIBN, 125 P2MDICP, 126 P2MDICN, 127 P2MDIDP, 128 P2MDIDN
part B pins: 1 AVDDH, 6 AVDDL, 11 AVDDH, 12 GND, 14 AVDDL, 17 AVDDH, 18 DVDDIO, 21 DVDDL, 23 AVDDH, 28 AVDDL, 33 AVDDH, 34 PLLVDDL1, 36 AVDDH, 39 DVDDIO_2, 53 DVDDL, 54 DVDDIO_2, 55 DVDDIO_1, 69 DVDDIO_1, 70 DVDDIO, 71 DVDDL, 87 AVDDL, 88 AVDDH, 96 AVDDH, 101 AVDDL, 106 AVDDH, 111 AVDDL, 116 PLLVDDL0, 118 PLLGND0, 119 AVDDH, 124 AVDDL, 129 E_PAD

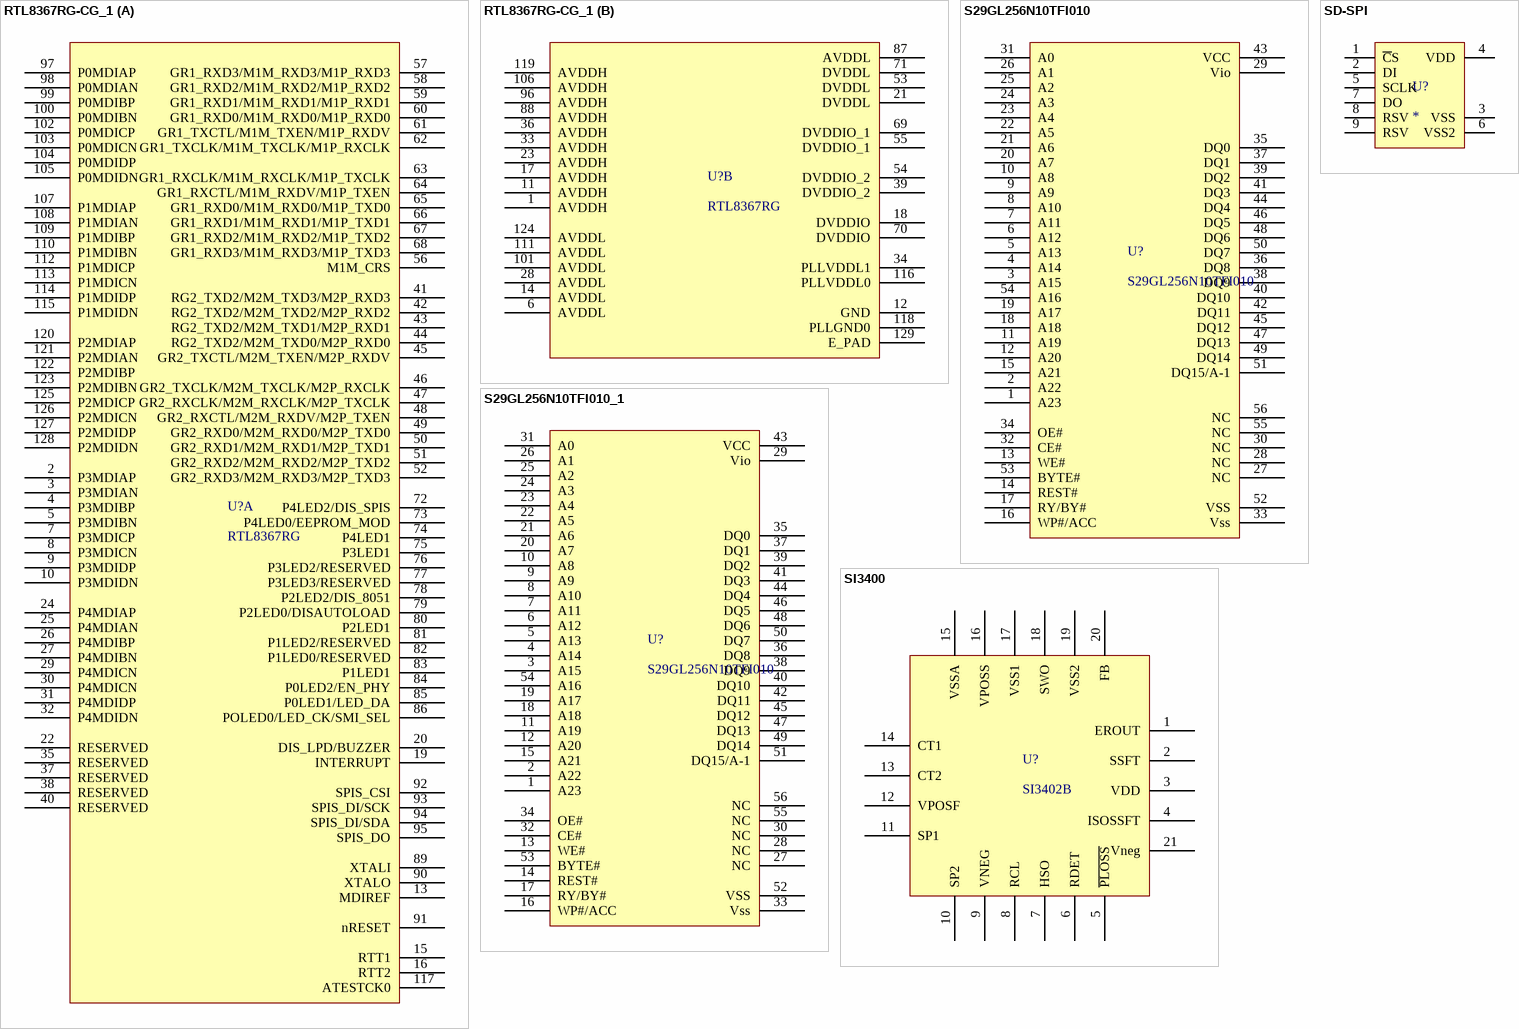
[diagram p16: symbols RTL8367RG-CG_1 to SI3400]

## RTL8367RG-CG_1
designator U?, comment RTL8367RG
footprint LQFP128
part A pins: 2 P3MDIAP, 3 P3MDIAN, 4 P3MDIBP, 5 P3MDIBN, 7 P3MDICP, 8 P3MDICN, 9 P3MDIDP, 10 P3MDIDN, 13 MDIREF, 15 RTT1, 16 RTT2, 19 INTERRUPT, 20 DIS_LPD/BUZZER, 22 RESERVED, 24 P4MDIAP, 25 P4MDIAN, 26 P4MDIBP, 27 P4MDIBN, 29 P4MDICN, 30 P4MDICN, 31 P4MDIDP, 32 P4MDIDN, 35 RESERVED, 37 RESERVED, 38 RESERVED, 40 RESERVED, 41 RG2_TXD2/M2M_TXD3/M2P_RXD3, 42 RG2_TXD2/M2M_TXD2/M2P_RXD2, 43 RG2_TXD2/M2M_TXD1/M2P_RXD1, 44 RG2_TXD2/M2M_TXD0/M2P_RXD0, 45 GR2_TXCTL/M2M_TXEN/M2P_RXDV, 46 GR2_TXCLK/M2M_TXCLK/M2P_RXCLK, 47 GR2_RXCLK/M2M_RXCLK/M2P_TXCLK, 48 GR2_RXCTL/M2M_RXDV/M2P_TXEN, 49 GR2_RXD0/M2M_RXD0/M2P_TXD0, 50 GR2_RXD1/M2M_RXD1/M2P_TXD1, 51 GR2_RXD2/M2M_RXD2/M2P_TXD2, 52 GR2_RXD3/M2M_RXD3/M2P_TXD3, 56 M1M_CRS, 57 GR1_RXD3/M1M_RXD3/M1P_RXD3, 58 GR1_RXD2/M1M_RXD2/M1P_RXD2, 59 GR1_RXD1/M1M_RXD1/M1P_RXD1, 60 GR1_RXD0/M1M_RXD0/M1P_RXD0, 61 GR1_TXCTL/M1M_TXEN/M1P_RXDV, 62 GR1_TXCLK/M1M_TXCLK/M1P_RXCLK, 63 GR1_RXCLK/M1M_RXCLK/M1P_TXCLK, 64 GR1_RXCTL/M1M_RXDV/M1P_TXEN, 65 GR1_RXD0/M1M_RXD0/M1P_TXD0, 66 GR1_RXD1/M1M_RXD1/M1P_TXD1, 67 GR1_RXD2/M1M_RXD2/M1P_TXD2, 68 GR1_RXD3/M1M_RXD3/M1P_TXD3, 72 P4LED2/DIS_SPIS, 73 P4LED0/EEPROM_MOD, 74 P4LED1, 75 P3LED1, 76 P3LED2/RESERVED, 77 P3LED3/RESERVED, 78 P2LED2/DIS_8051, 79 P2LED0/DISAUTOLOAD, 80 P2LED1, 81 P1LED2/RESERVED, 82 P1LED0/RESERVED, 83 P1LED1, 84 P0LED2/EN_PHY, 85 P0LED1/LED_DA, 86 POLED0/LED_CK/SMI_SEL, 89 XTALI, 90 XTALO, 91 nRESET, 92 SPIS_CSI, 93 SPIS_DI/SCK, 94 SPIS_DI/SDA, 95 SPIS_DO, 97 P0MDIAP, 98 P0MDIAN, 99 P0MDIBP, 100 P0MDIBN, 102 P0MDICP, 103 P0MDICN, 104 P0MDIDP, 105 P0MDIDN, 107 P1MDIAP, 108 P1MDIAN, 109 P1MDIBP, 110 P1MDIBN, 112 P1MDICP, 113 P1MDICN, 114 P1MDIDP, 115 P1MDIDN, 117 ATESTCK0, 120 P2MDIAP, 121 P2MDIAN, 122 P2MDIBP, 123 P2MDIBN, 125 P2MDICP, 126 P2MDICN, 127 P2MDIDP, 128 P2MDIDN
part B pins: 1 AVDDH, 6 AVDDL, 11 AVDDH, 12 GND, 14 AVDDL, 17 AVDDH, 18 DVDDIO, 21 DVDDL, 23 AVDDH, 28 AVDDL, 33 AVDDH, 34 PLLVDDL1, 36 AVDDH, 39 DVDDIO_2, 53 DVDDL, 54 DVDDIO_2, 55 DVDDIO_1, 69 DVDDIO_1, 70 DVDDIO, 71 DVDDL, 87 AVDDL, 88 AVDDH, 96 AVDDH, 101 AVDDL, 106 AVDDH, 111 AVDDL, 116 PLLVDDL0, 118 PLLGND0, 119 AVDDH, 124 AVDDL, 129 E_PAD

## S29GL256N10TFI010
designator U?
footprint TSOP-56
pins: 1 A23, 2 A22, 3 A15, 4 A14, 5 A13, 6 A12, 7 A11, 8 A10, 9 A9, 10 A8, 11 A19, 12 A20, 13 WE#, 14 REST#, 15 A21, 16 WP#/ACC, 17 RY/BY#, 18 A18, 19 A17, 20 A7, 21 A6, 22 A5, 23 A4, 24 A3, 25 A2, 26 A1, 27 NC, 28 NC, 29 Vio, 30 NC, 31 A0, 32 CE#, 33 Vss, 34 OE#, 35 DQ0, 36 DQ8, 37 DQ1, 38 DQ9, 39 DQ2, 40 DQ10, 41 DQ3, 42 DQ11, 43 VCC, 44 DQ4, 45 DQ12, 46 DQ5, 47 DQ13, 48 DQ6, 49 DQ14, 50 DQ7, 51 DQ15/A-1, 52 VSS, 53 BYTE#, 54 A16, 55 NC, 56 NC

## S29GL256N10TFI010_1
designator U?, comment S29GL256N10TFI010
footprint TSOP-56
pins: 1 A23, 2 A22, 3 A15, 4 A14, 5 A13, 6 A12, 7 A11, 8 A10, 9 A9, 10 A8, 11 A19, 12 A20, 13 WE#, 14 REST#, 15 A21, 16 WP#/ACC, 17 RY/BY#, 18 A18, 19 A17, 20 A7, 21 A6, 22 A5, 23 A4, 24 A3, 25 A2, 26 A1, 27 NC, 28 NC, 29 Vio, 30 NC, 31 A0, 32 CE#, 33 Vss, 34 OE#, 35 DQ0, 36 DQ8, 37 DQ1, 38 DQ9, 39 DQ2, 40 DQ10, 41 DQ3, 42 DQ11, 43 VCC, 44 DQ4, 45 DQ12, 46 DQ5, 47 DQ13, 48 DQ6, 49 DQ14, 50 DQ7, 51 DQ15/A-1, 52 VSS, 53 BYTE#, 54 A16, 55 NC, 56 NC

## SD-SPI
designator U?
pins: 1 ~{C}S, 2 DI, 3 VSS, 4 VDD, 5 SCLK, 6 VSS2, 7 DO, 8 RSV, 9 RSV

## SI3400
designator U?, comment SI3402B
集成电路
footprint QFN20
pins: 1 EROUT, 2 SSFT, 3 VDD, 4 ISOSSFT, 5 ~{PLOSS}, 6 RDET, 7 HSO, 8 RCL, 9 VNEG, 10 SP2, 11 SP1, 12 VPOSF, 13 CT2, 14 CT1, 15 VSSA, 16 VPOSS, 17 VSS1, 18 SWO, 19 VSS2, 20 FB, 21 Vneg

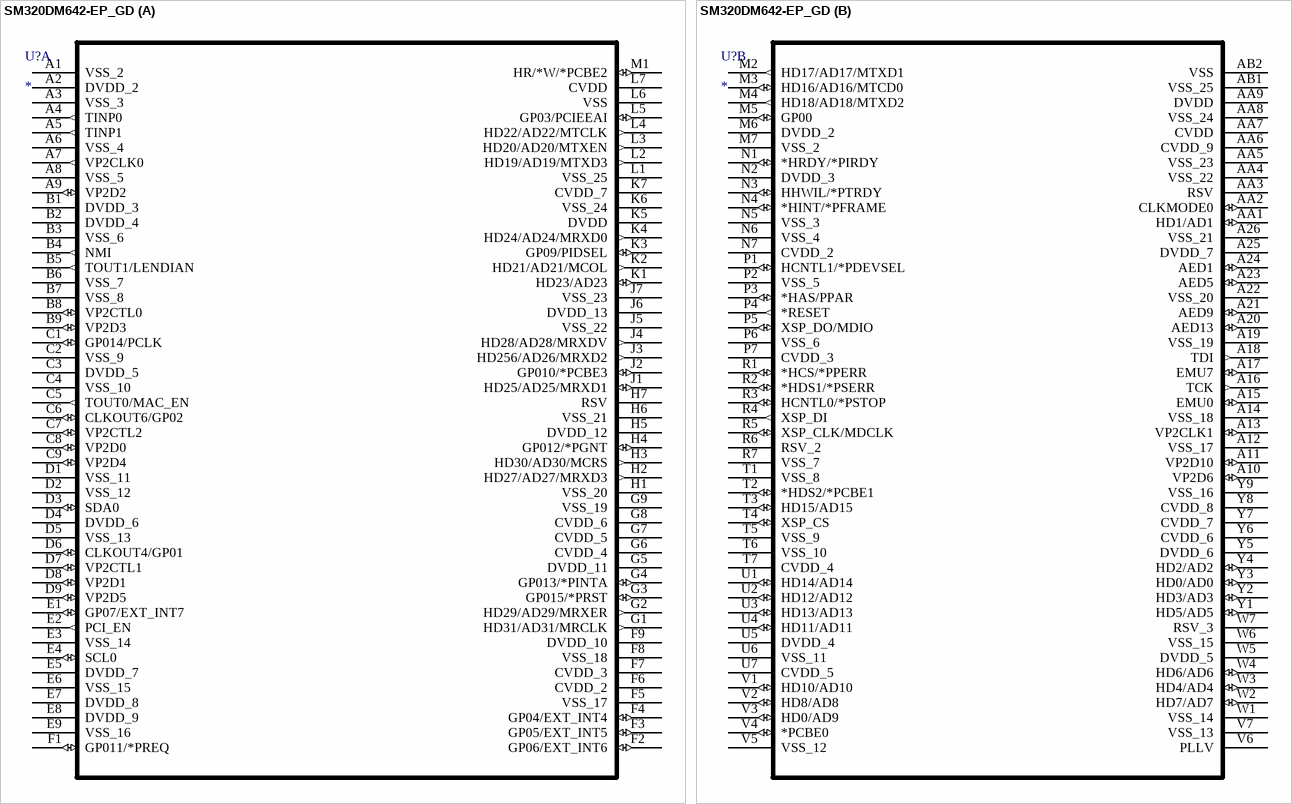
[diagram p17: symbol SM320DM642-EP_GD]

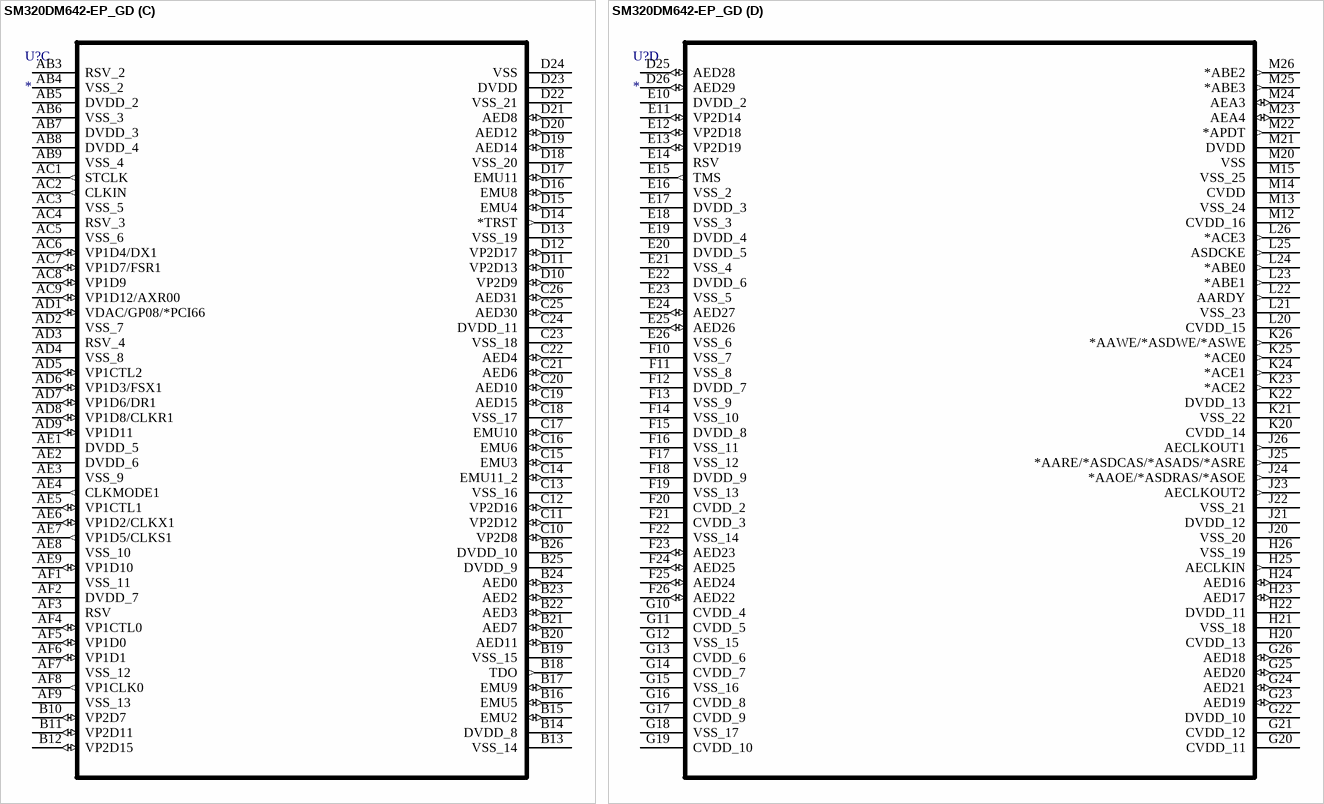
[diagram p18: symbol SM320DM642-EP_GD]

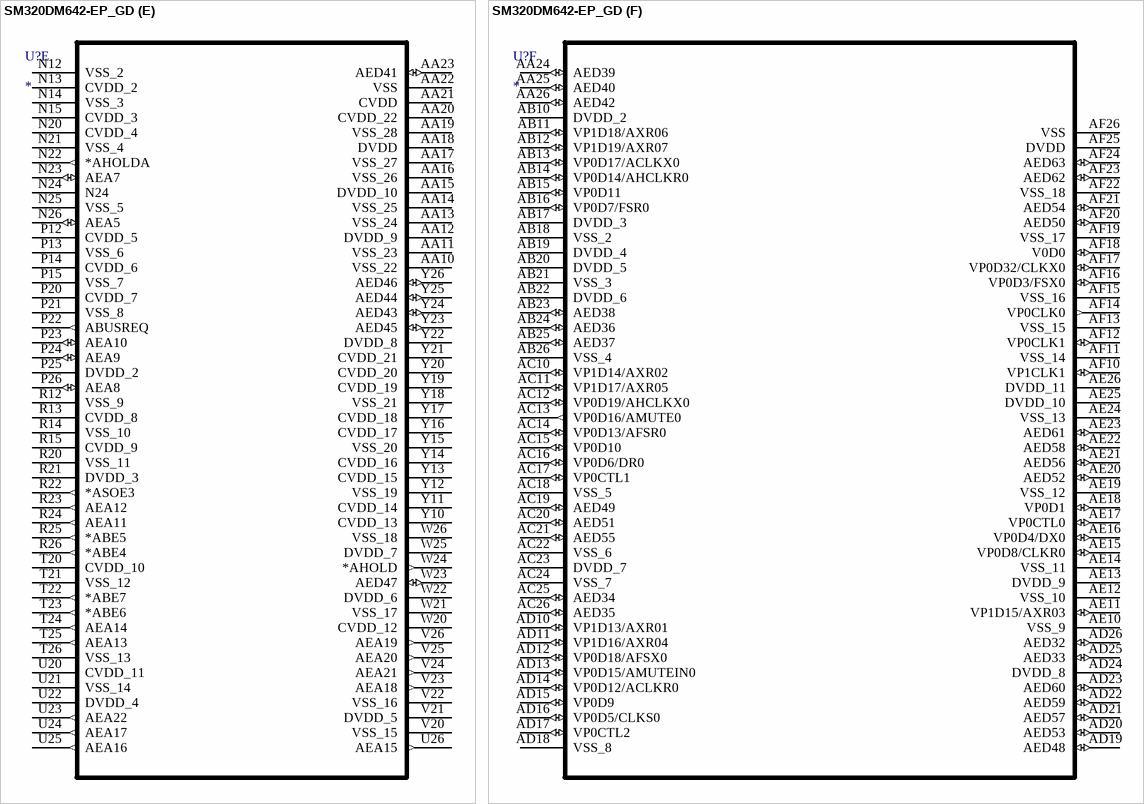
[diagram p19: symbol SM320DM642-EP_GD]

## SM320DM642-EP_GD
designator U?
Imported
footprint GDK548; pin to pad A1>1 A2>2 A3>3 A4>4 A5>5 A6>6 A7>7 A8>8 A9>9 A10>10 A11>11 A12>12 A13>13 A14>14 A15>15 A16>16 A17>17 A18>18 A19>19 A20>20 A21>21 A22>22 A23>23 A24>24 A25>25 A26>26 AA1>393 AA2>394 AA3>395 AA4>396 AA5>397 AA6>398 AA7>399 AA8>400 AA9>401 AA10>402 AA11>403 AA12>404 AA13>405 AA14>406 AA15>407 AA16>408 AA17>409 AA18>410 AA19>411 AA20>412 AA21>413 AA22>414 AA23>415 AA24>416 AA25>417 AA26>418 AB1>419 AB2>420 AB3>421 AB4>422 AB5>423 AB6>424 AB7>425 AB8>426 AB9>427 AB10>428 AB11>429 AB12>430 AB13>431 AB14>432 AB15>433 AB16>434 AB17>435 AB18>436 AB19>437 AB20>438 AB21>439 AB22>440 AB23>441 AB24>442 AB25>443 AB26>444 AC1>445 AC2>446 AC3>447 AC4>448 AC5>449 AC6>450 AC7>451 AC8>452 AC9>453 AC10>454 AC11>455 AC12>456 AC13>457 AC14>458 AC15>459 AC16>460 AC17>461 AC18>462 AC19>463 AC20>464 AC21>465 AC22>466 AC23>467 AC24>468 AC25>469 AC26>470 AD1>471 AD2>472 AD3>473 AD4>474 AD5>475 AD6>476 AD7>477 AD8>478 AD9>479 AD10>480 AD11>481 AD12>482 AD13>483 AD14>484 AD15>485 AD16>486 AD17>487 AD18>488 AD19>489 AD20>490 AD21>491 AD22>492 AD23>493 AD24>494 AD25>495 AD26>496 AE1>497 AE2>498 AE3>499 AE4>500 AE5>501 AE6>502 AE7>503 AE8>504 AE9>505 AE10>506 AE11>507 AE12>508 AE13>509 AE14>510 AE15>511 AE16>512 AE17>513 AE18>514 AE19>515 AE20>516 AE21>517 AE22>518 AE23>519 AE24>520 AE25>521 AE26>522 AF1>523 AF2>524 AF3>525 AF4>526 AF5>527 AF6>528 AF7>529 AF8>530 AF9>531 AF10>532 AF11>533 AF12>534 AF13>535 AF14>536 AF15>537 AF16>538 AF17>539 AF18>540 AF19>541 AF20>542 AF21>543 AF22>544 AF23>545 AF24>546 AF25>547 AF26>548 B1>27 B2>28 B3>29 B4>30 B5>31 B6>32 B7>33 B8>34 B9>35 B10>36 B11>37 B12>38 B13>39 B14>40 B15>41 B16>42 B17>43 B18>44 B19>45 B20>46 B21>47 B22>48 B23>49 B24>50 B25>51 B26>52 C1>53 C2>54 C3>55 C4>56 C5>57 C6>58 C7>59 C8>60 C9>61 C10>62 C11>63 C12>64 C13>65 C14>66 C15>67 C16>68 C17>69 C18>70 C19>71 C20>72 C21>73 C22>74 C23>75 C24>76 C25>77 C26>78 D1>79 D2>80 D3>81 D4>82 D5>83 D6>84 D7>85 D8>86 D9>87 D10>88 D11>89 D12>90 D13>91 D14>92 D15>93 D16>94 D17>95 D18>96 D19>97 D20>98 D21>99 D22>100 D23>101 D24>102 D25>103 D26>104 E1>105 E2>106 E3>107 E4>108 E5>109 E6>110 E7>111 E8>112 E9>113 E10>114 E11>115 E12>116 E13>117 E14>118 E15>119 E16>120 E17>121 E18>122 E19>123 E20>124 E21>125 E22>126 E23>127 E24>128 E25>129 E26>130 F1>131 F2>132 F3>133 F4>134 F5>135 F6>136 F7>137 F8>138 F9>139 F10>140 F11>141 F12>142 F13>143 F14>144 F15>145 F16>146 F17>147 F18>148 F19>149 F20>150 F21>151 F22>152 F23>153 F24>154 F25>155 F26>156 G1>157 G2>158 G3>159 G4>160 G5>161 G6>162 G7>163 G8>164 G9>165 G10>166 G11>167 G12>168 G13>169 G14>170 G15>171 G16>172 G17>173 G18>174 G19>175 G20>176 G21>177 G22>178 G23>179 G24>180 G25>181 G26>182 H1>183 H2>184 H3>185 H4>186 H5>187 H6>188 H7>189 H20>190 H21>191 H22>192 H23>193 H24>194 H25>195 H26>196 J1>197 J2>198 J3>199 J4>200 J5>201 J6>202 J7>203 J20>204 J21>205 J22>206 J23>207 J24>208 J25>209 J26>210 K1>211 K2>212 K3>213 K4>214 K5>215 K6>216 K7>217 K20>218 K21>219 K22>220 K23>221 K24>222 K25>223 K26>224 L1>225 L2>226 L3>227 L4>228 L5>229 L6>230 L7>231 L20>232 L21>233 L22>234 L23>235 L24>236 L25>237 L26>238 M1>239 M2>240 M3>241 M4>242 M5>243 M6>244 M7>245 M12>246 M13>247 M14>248 M15>249 M20>250 M21>251 M22>252 M23>253 M24>254 M25>255 M26>256 N1>257 N2>258 N3>259 N4>260 N5>261 N6>262 N7>263 N12>264 N13>265 N14>266 N15>267 N20>268 N21>269 N22>270 N23>271 N24>272 N25>273 N26>274 P1>275 P2>276 P3>277 P4>278 P5>279 P6>280 P7>281 P12>282 P13>283 P14>284 P15>285 P20>286 P21>287 P22>288 P23>289 P24>290 P25>291 P26>292 R1>293 R2>294 R3>295 R4>296 R5>297 R6>298 R7>299 R12>300 R13>301 R14>302 R15>303 R20>304 R21>305 R22>306 R23>307 R24>308 R25>309 R26>310 T1>311 T2>312 T3>313 T4>314 T5>315 T6>316 T7>317 T20>318 T21>319 T22>320 T23>321 T24>322 T25>323 T26>324 U1>325 U2>326 U3>327 U4>328 U5>329 U6>330 U7>331 U20>332 U21>333 U22>334 U23>335 U24>336 U25>337 U26>338 V1>339 V2>340 V3>341 V4>342 V5>343 V6>344 V7>345 V20>346 V21>347 V22>348 V23>349 V24>350 V25>351 V26>352 W1>353 W2>354 W3>355 W4>356 W5>357 W6>358 W7>359 W20>360 W21>361 W22>362 W23>363 W24>364 W25>365 W26>366 Y1>367 Y2>368 Y3>369 Y4>370 Y5>371 Y6>372 Y7>373 Y8>374 Y9>375 Y10>376 Y11>377 Y12>378 Y13>379 Y14>380 Y15>381 Y16>382 Y17>383 Y18>384 Y19>385 Y20>386 Y21>387 Y22>388 Y23>389 Y24>390 Y25>391 Y26>392
part A pins: A1 VSS_2 (power), A2 DVDD_2 (power), A3 VSS_3 (power), A4 TINP0 (out), A5 TINP1 (out), A6 VSS_4 (power), A7 VP2CLK0 (out), A8 VSS_5 (power), A9 VP2D2 (io), B1 DVDD_3 (power), B2 DVDD_4 (power), B3 VSS_6 (power), B4 NMI (out), B5 TOUT1/LENDIAN (out), B6 VSS_7 (power), B7 VSS_8 (power), B8 VP2CTL0 (io), B9 VP2D3 (io), C1 GP014/PCLK (io), C2 VSS_9 (power), C3 DVDD_5 (power), C4 VSS_10 (power), C5 TOUT0/MAC_EN (out), C6 CLKOUT6/GP02 (io), C7 VP2CTL2 (io), C8 VP2D0 (io), C9 VP2D4 (io), D1 VSS_11 (power), D2 VSS_12 (power), D3 SDA0 (io), D4 DVDD_6 (power), D5 VSS_13 (power), D6 CLKOUT4/GP01 (io), D7 VP2CTL1 (io), D8 VP2D1 (io), D9 VP2D5 (io), E1 GP07/EXT_INT7 (io), E2 PCI_EN (out), E3 VSS_14 (power), E4 SCL0 (io), E5 DVDD_7 (power), E6 VSS_15 (power), E7 DVDD_8 (power), E8 DVDD_9 (power), E9 VSS_16 (power), F1 GP011/*PREQ (io), F2 GP06/EXT_INT6 (io), F3 GP05/EXT_INT5 (io), F4 GP04/EXT_INT4 (io), F5 VSS_17 (power), F6 CVDD_2 (power), F7 CVDD_3 (power), F8 VSS_18 (power), F9 DVDD_10 (power), G1 HD31/AD31/MRCLK (out), G2 HD29/AD29/MRXER (out), G3 GP015/*PRST (io), G4 GP013/*PINTA (io), G5 DVDD_11 (power), G6 CVDD_4 (power), G7 CVDD_5 (power), G8 CVDD_6 (power), G9 VSS_19 (power), H1 VSS_20 (power), H2 HD27/AD27/MRXD3 (out), H3 HD30/AD30/MCRS (out), H4 GP012/*PGNT (io), H5 DVDD_12 (power), H6 VSS_21 (power), H7 RSV, J1 HD25/AD25/MRXD1 (io), J2 GP010/*PCBE3 (io), J3 HD256/AD26/MRXD2 (out), J4 HD28/AD28/MRXDV (out), J5 VSS_22 (power), J6 DVDD_13 (power), J7 VSS_23 (power), K1 HD23/AD23 (io), K2 HD21/AD21/MCOL (out), K3 GP09/PIDSEL (io), K4 HD24/AD24/MRXD0 (out), K5 DVDD (power), K6 VSS_24 (power), K7 CVDD_7 (power), L1 VSS_25 (power), L2 HD19/AD19/MTXD3 (out), L3 HD20/AD20/MTXEN (out), L4 HD22/AD22/MTCLK (out), L5 GP03/PCIEEAI (io), L6 VSS (power), L7 CVDD (power), M1 HR/*W/*PCBE2 (io)
part B pins: A10 VP2D6 (io), A11 VP2D10 (io), A12 VSS_17 (power), A13 VP2CLK1 (io), A14 VSS_18 (power), A15 EMU0 (io), A16 TCK (out), A17 EMU7 (io), A18 TDI (out), A19 VSS_19 (power), A20 AED13 (io), A21 AED9 (io), A22 VSS_20 (power), A23 AED5 (io), A24 AED1 (io), A25 DVDD_7 (power), A26 VSS_21 (power), AA1 HD1/AD1 (io), AA2 CLKMODE0 (io), AA3 RSV, AA4 VSS_22 (power), AA5 VSS_23 (power), AA6 CVDD_9 (power), AA7 CVDD (power), AA8 VSS_24 (power), AA9 DVDD (power), AB1 VSS_25 (power), AB2 VSS (power), M2 HD17/AD17/MTXD1 (out), M3 HD16/AD16/MTCD0 (io), M4 HD18/AD18/MTXD2 (out), M5 GP00 (io), M6 DVDD_2 (power), M7 VSS_2 (power), N1 *HRDY/*PIRDY (io), N2 DVDD_3 (power), N3 HHWIL/*PTRDY (io), N4 *HINT/*PFRAME (io), N5 VSS_3 (power), N6 VSS_4 (power), N7 CVDD_2 (power), P1 HCNTL1/*PDEVSEL (io), P2 VSS_5 (power), P3 *HAS/PPAR (io), P4 *RESET (out), P5 XSP_DO/MDIO (io), P6 VSS_6 (power), P7 CVDD_3 (power), R1 *HCS/*PPERR (io), R2 *HDS1/*PSERR (io), R3 HCNTL0/*PSTOP (io), R4 XSP_DI (out), R5 XSP_CLK/MDCLK (io), R6 RSV_2, R7 VSS_7 (power), T1 VSS_8 (power), T2 *HDS2/*PCBE1 (io), T3 HD15/AD15 (io), T4 XSP_CS (io), T5 VSS_9 (power), T6 VSS_10 (power), T7 CVDD_4 (power), U1 HD14/AD14 (io), U2 HD12/AD12 (io), U3 HD13/AD13 (io), U4 HD11/AD11 (io), U5 DVDD_4 (power), U6 VSS_11 (power), U7 CVDD_5 (power), V1 HD10/AD10 (io), V2 HD8/AD8 (io), V3 HD0/AD9 (io), V4 *PCBE0 (io), V5 VSS_12 (power), V6 PLLV (power), V7 VSS_13 (power), W1 VSS_14 (power), W2 HD7/AD7 (io), W3 HD4/AD4 (io), W4 HD6/AD6 (io), W5 DVDD_5 (power), W6 VSS_15 (power), W7 RSV_3, Y1 HD5/AD5 (io), Y2 HD3/AD3 (io), Y3 HD0/AD0 (io), Y4 HD2/AD2 (io), Y5 DVDD_6 (power), Y6 CVDD_6 (power), Y7 CVDD_7 (power), Y8 CVDD_8 (power), Y9 VSS_16 (power)
part C pins: AB3 RSV_2, AB4 VSS_2 (power), AB5 DVDD_2 (power), AB6 VSS_3 (power), AB7 DVDD_3 (power), AB8 DVDD_4 (power), AB9 VSS_4 (power), AC1 STCLK (out), AC2 CLKIN (out), AC3 VSS_5 (power), AC4 RSV_3, AC5 VSS_6 (power), AC6 VP1D4/DX1 (io), AC7 VP1D7/FSR1 (io), AC8 VP1D9 (io), AC9 VP1D12/AXR00 (io), AD1 VDAC/GP08/*PCI66 (io), AD2 VSS_7 (power), AD3 RSV_4, AD4 VSS_8 (power), AD5 VP1CTL2 (io), AD6 VP1D3/FSX1 (io), AD7 VP1D6/DR1 (io), AD8 VP1D8/CLKR1 (io), AD9 VP1D11 (io), AE1 DVDD_5 (power), AE2 DVDD_6 (power), AE3 VSS_9 (power), AE4 CLKMODE1 (out), AE5 VP1CTL1 (io), AE6 VP1D2/CLKX1 (io), AE7 VP1D5/CLKS1 (out), AE8 VSS_10 (power), AE9 VP1D10 (io), AF1 VSS_11 (power), AF2 DVDD_7 (power), AF3 RSV, AF4 VP1CTL0 (io), AF5 VP1D0 (io), AF6 VP1D1 (io), AF7 VSS_12 (power), AF8 VP1CLK0 (out), AF9 VSS_13 (power), B10 VP2D7 (io), B11 VP2D11 (io), B12 VP2D15 (io), B13 VSS_14 (power), B14 DVDD_8 (power), B15 EMU2 (io), B16 EMU5 (io), B17 EMU9 (io), B18 TDO (out), B19 VSS_15 (power), B20 AED11 (io), B21 AED7 (io), B22 AED3 (io), B23 AED2 (io), B24 AED0 (io), B25 DVDD_9 (power), B26 DVDD_10 (power), C10 VP2D8 (io), C11 VP2D12 (io), C12 VP2D16 (io), C13 VSS_16 (power), C14 EMU11_2 (io), C15 EMU3 (io), C16 EMU6 (io), C17 EMU10 (io), C18 VSS_17 (power), C19 AED15 (io), C20 AED10 (io), C21 AED6 (io), C22 AED4 (io), C23 VSS_18 (power), C24 DVDD_11 (power), C25 AED30 (io), C26 AED31 (io), D10 VP2D9 (io), D11 VP2D13 (io), D12 VP2D17 (io), D13 VSS_19 (power), D14 *TRST (out), D15 EMU4 (io), D16 EMU8 (io), D17 EMU11 (io), D18 VSS_20 (power), D19 AED14 (io), D20 AED12 (io), D21 AED8 (io), D22 VSS_21 (power), D23 DVDD (power), D24 VSS (power)
part D pins: D25 AED28 (io), D26 AED29 (io), E10 DVDD_2 (power), E11 VP2D14 (io), E12 VP2D18 (io), E13 VP2D19 (io), E14 RSV, E15 TMS (out), E16 VSS_2 (power), E17 DVDD_3 (power), E18 VSS_3 (power), E19 DVDD_4 (power), E20 DVDD_5 (power), E21 VSS_4 (power), E22 DVDD_6 (power), E23 VSS_5 (power), E24 AED27 (io), E25 AED26 (io), E26 VSS_6 (power), F10 VSS_7 (power), F11 VSS_8 (power), F12 DVDD_7 (power), F13 VSS_9 (power), F14 VSS_10 (power), F15 DVDD_8 (power), F16 VSS_11 (power), F17 VSS_12 (power), F18 DVDD_9 (power), F19 VSS_13 (power), F20 CVDD_2 (power), F21 CVDD_3 (power), F22 VSS_14 (power), F23 AED23 (io), F24 AED25 (io), F25 AED24 (io), F26 AED22 (io), G10 CVDD_4 (power), G11 CVDD_5 (power), G12 VSS_15 (power), G13 CVDD_6 (power), G14 CVDD_7 (power), G15 VSS_16 (power), G16 CVDD_8 (power), G17 CVDD_9 (power), G18 VSS_17 (power), G19 CVDD_10 (power), G20 CVDD_11 (power), G21 CVDD_12 (power), G22 DVDD_10 (power), G23 AED19 (io), G24 AED21 (io), G25 AED20 (io), G26 AED18 (io), H20 CVDD_13 (power), H21 VSS_18 (power), H22 DVDD_11 (power), H23 AED17 (io), H24 AED16 (io), H25 AECLKIN (out), H26 VSS_19 (power), J20 VSS_20 (power), J21 DVDD_12 (power), J22 VSS_21 (power), J23 AECLKOUT2 (out), J24 *AAOE/*ASDRAS/*ASOE (out), J25 *AARE/*ASDCAS/*ASADS/*ASRE (out), J26 AECLKOUT1 (out), K20 CVDD_14 (power), K21 VSS_22 (power), K22 DVDD_13 (power), K23 *ACE2 (out), K24 *ACE1 (out), K25 *ACE0 (out), K26 *AAWE/*ASDWE/*ASWE (out), L20 CVDD_15 (power), L21 VSS_23 (power), L22 AARDY (out), L23 *ABE1 (out), L24 *ABE0 (out), L25 ASDCKE (out), L26 *ACE3 (out), M12 CVDD_16 (power), M13 VSS_24 (power), M14 CVDD (power), M15 VSS_25 (power), M20 VSS (power), M21 DVDD (power), M22 *APDT (out), M23 AEA4 (io), M24 AEA3 (io), M25 *ABE3 (out), M26 *ABE2 (out)
part E pins: AA10 VSS_22 (power), AA11 VSS_23 (power), AA12 DVDD_9 (power), AA13 VSS_24 (power), AA14 VSS_25 (power), AA15 DVDD_10 (power), AA16 VSS_26 (power), AA17 VSS_27 (power), AA18 DVDD (power), AA19 VSS_28 (power), AA20 CVDD_22 (power), AA21 CVDD (power), AA22 VSS (power), AA23 AED41 (io), N12 VSS_2 (power), N13 CVDD_2 (power), N14 VSS_3 (power), N15 CVDD_3 (power), N20 CVDD_4 (power), N21 VSS_4 (power), N22 *AHOLDA (out), N23 AEA7 (io), N24, N25 VSS_5 (power), N26 AEA5 (io), P12 CVDD_5 (power), P13 VSS_6 (power), P14 CVDD_6 (power), P15 VSS_7 (power), P20 CVDD_7 (power), P21 VSS_8 (power), P22 ABUSREQ (out), P23 AEA10 (io), P24 AEA9 (io), P25 DVDD_2 (power), P26 AEA8 (io), R12 VSS_9 (power), R13 CVDD_8 (power), R14 VSS_10 (power), R15 CVDD_9 (power), R20 VSS_11 (power), R21 DVDD_3 (power), R22 *ASOE3 (out), R23 AEA12 (out), R24 AEA11 (out), R25 *ABE5 (out), R26 *ABE4 (out), T20 CVDD_10 (power), T21 VSS_12 (power), T22 *ABE7 (out), T23 *ABE6 (out), T24 AEA14 (out), T25 AEA13 (out), T26 VSS_13 (power), U20 CVDD_11 (power), U21 VSS_14 (power), U22 DVDD_4 (power), U23 AEA22 (out), U24 AEA17 (out), U25 AEA16 (out), U26 AEA15 (out), V20 VSS_15 (power), V21 DVDD_5 (power), V22 VSS_16 (power), V23 AEA18 (out), V24 AEA21 (out), V25 AEA20 (out), V26 AEA19 (out), W20 CVDD_12 (power), W21 VSS_17 (power), W22 DVDD_6 (power), W23 AED47 (io), W24 *AHOLD (out), W25 DVDD_7 (power), W26 VSS_18 (power), Y10 CVDD_13 (power), Y11 CVDD_14 (power), Y12 VSS_19 (power), Y13 CVDD_15 (power), Y14 CVDD_16 (power), Y15 VSS_20 (power), Y16 CVDD_17 (power), Y17 CVDD_18 (power), Y18 VSS_21 (power), Y19 CVDD_19 (power), Y20 CVDD_20 (power), Y21 CVDD_21 (power), Y22 DVDD_8 (power), Y23 AED45 (io), Y24 AED43 (io), Y25 AED44 (io), Y26 AED46 (io)
part F pins: AA24 AED39 (io), AA25 AED40 (io), AA26 AED42 (io), AB10 DVDD_2 (power), AB11 VP1D18/AXR06 (io), AB12 VP1D19/AXR07 (io), AB13 VP0D17/ACLKX0 (io), AB14 VP0D14/AHCLKR0 (io), AB15 VP0D11 (io), AB16 VP0D7/FSR0 (io), AB17 DVDD_3 (power), AB18 VSS_2 (power), AB19 DVDD_4 (power), AB20 DVDD_5 (power), AB21 VSS_3 (power), AB22 DVDD_6 (power), AB23 AED38 (io), AB24 AED36 (io), AB25 AED37 (io), AB26 VSS_4 (power), AC10 VP1D14/AXR02 (io), AC11 VP1D17/AXR05 (io), AC12 VP0D19/AHCLKX0 (io), AC13 VP0D16/AMUTE0 (out), AC14 VP0D13/AFSR0 (io), AC15 VP0D10 (io), AC16 VP0D6/DR0 (io), AC17 VP0CTL1 (io), AC18 VSS_5 (power), AC19 AED49 (io), AC20 AED51 (io), AC21 AED55 (io), AC22 VSS_6 (power), AC23 DVDD_7 (power), AC24 VSS_7 (power), AC25 AED34 (io), AC26 AED35 (io), AD10 VP1D13/AXR01 (io), AD11 VP1D16/AXR04 (io), AD12 VP0D18/AFSX0 (io), AD13 VP0D15/AMUTEIN0 (io), AD14 VP0D12/ACLKR0 (io), AD15 VP0D9 (io), AD16 VP0D5/CLKS0 (io), AD17 VP0CTL2 (io), AD18 VSS_8 (power), AD19 AED48 (io), AD20 AED53 (io), AD21 AED57 (io), AD22 AED59 (io), AD23 AED60 (io), AD24 DVDD_8 (power), AD25 AED33 (io), AD26 AED32 (io), AE10 VSS_9 (power), AE11 VP1D15/AXR03 (io), AE12 VSS_10 (power), AE13 DVDD_9 (power), AE14 VSS_11 (power), AE15 VP0D8/CLKR0 (io), AE16 VP0D4/DX0 (io), AE17 VP0CTL0 (io), AE18 VP0D1 (io), AE19 VSS_12 (power), AE20 AED52 (io), AE21 AED56 (io), AE22 AED58 (io), AE23 AED61 (io), AE24 VSS_13 (power), AE25 DVDD_10 (power), AE26 DVDD_11 (power), AF10 VP1CLK1 (io), AF11 VSS_14 (power), AF12 VP0CLK1 (io), AF13 VSS_15 (power), AF14 VP0CLK0 (out), AF15 VSS_16 (power), AF16 VP0D3/FSX0 (io), AF17 VP0D32/CLKX0 (io), AF18 V0D0 (io), AF19 VSS_17 (power), AF20 AED50 (io), AF21 AED54 (io), AF22 VSS_18 (power), AF23 AED62 (io), AF24 AED63 (io), AF25 DVDD (power), AF26 VSS (power)

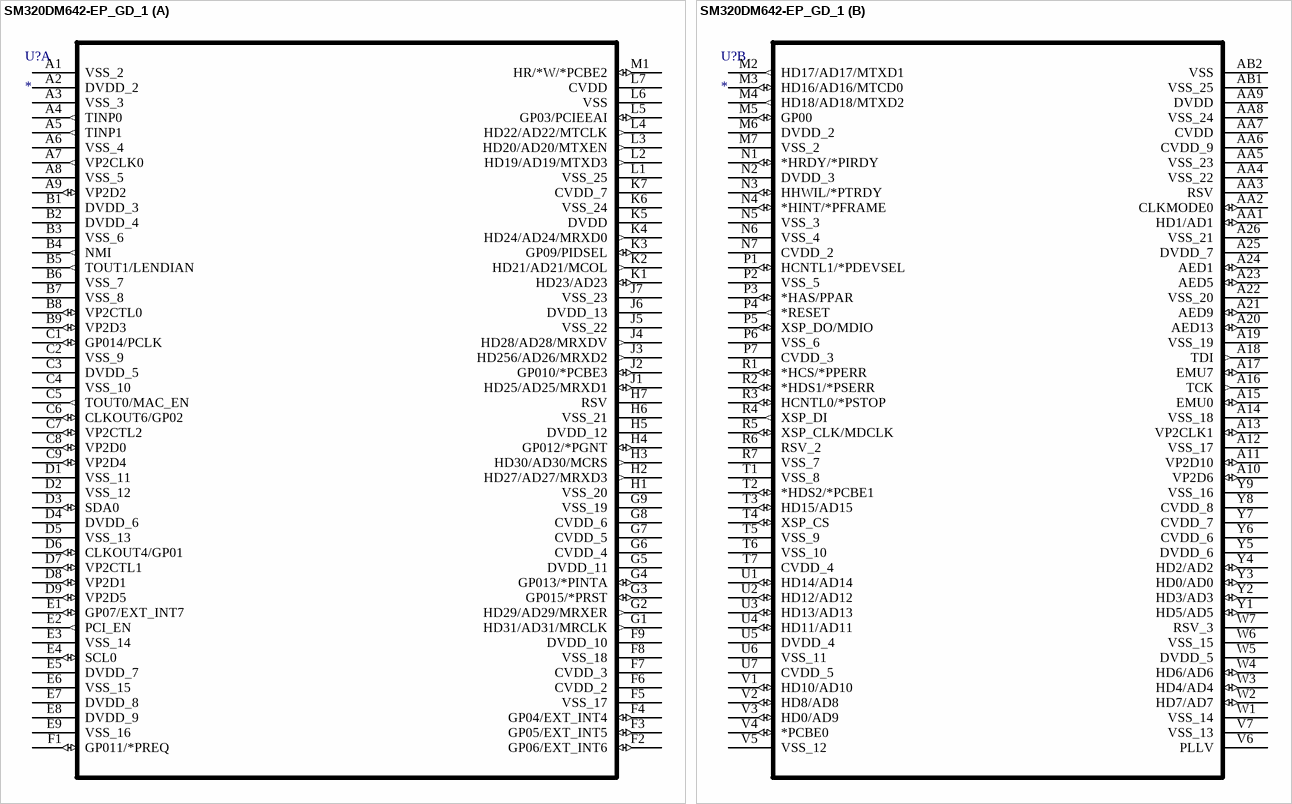
[diagram p20: symbol SM320DM642-EP_GD_1]

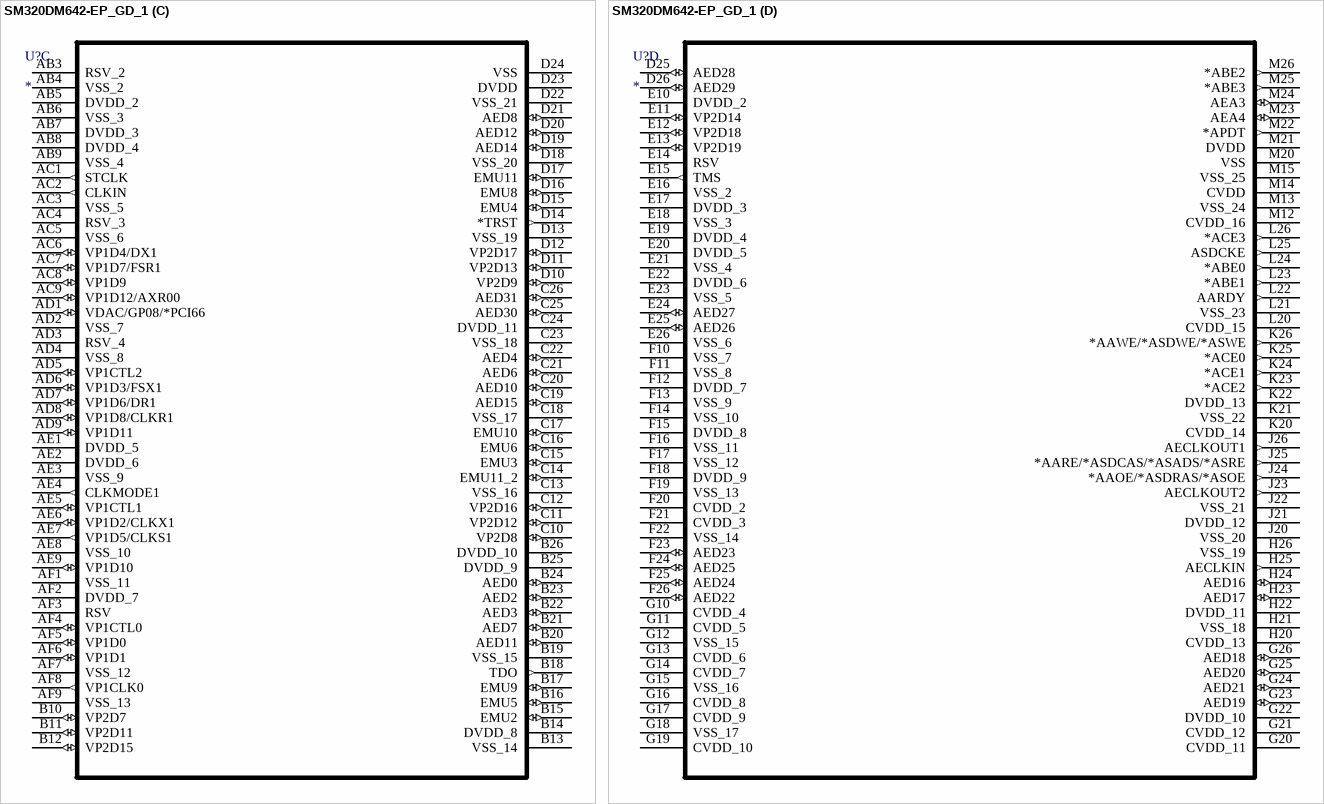
[diagram p21: symbol SM320DM642-EP_GD_1]

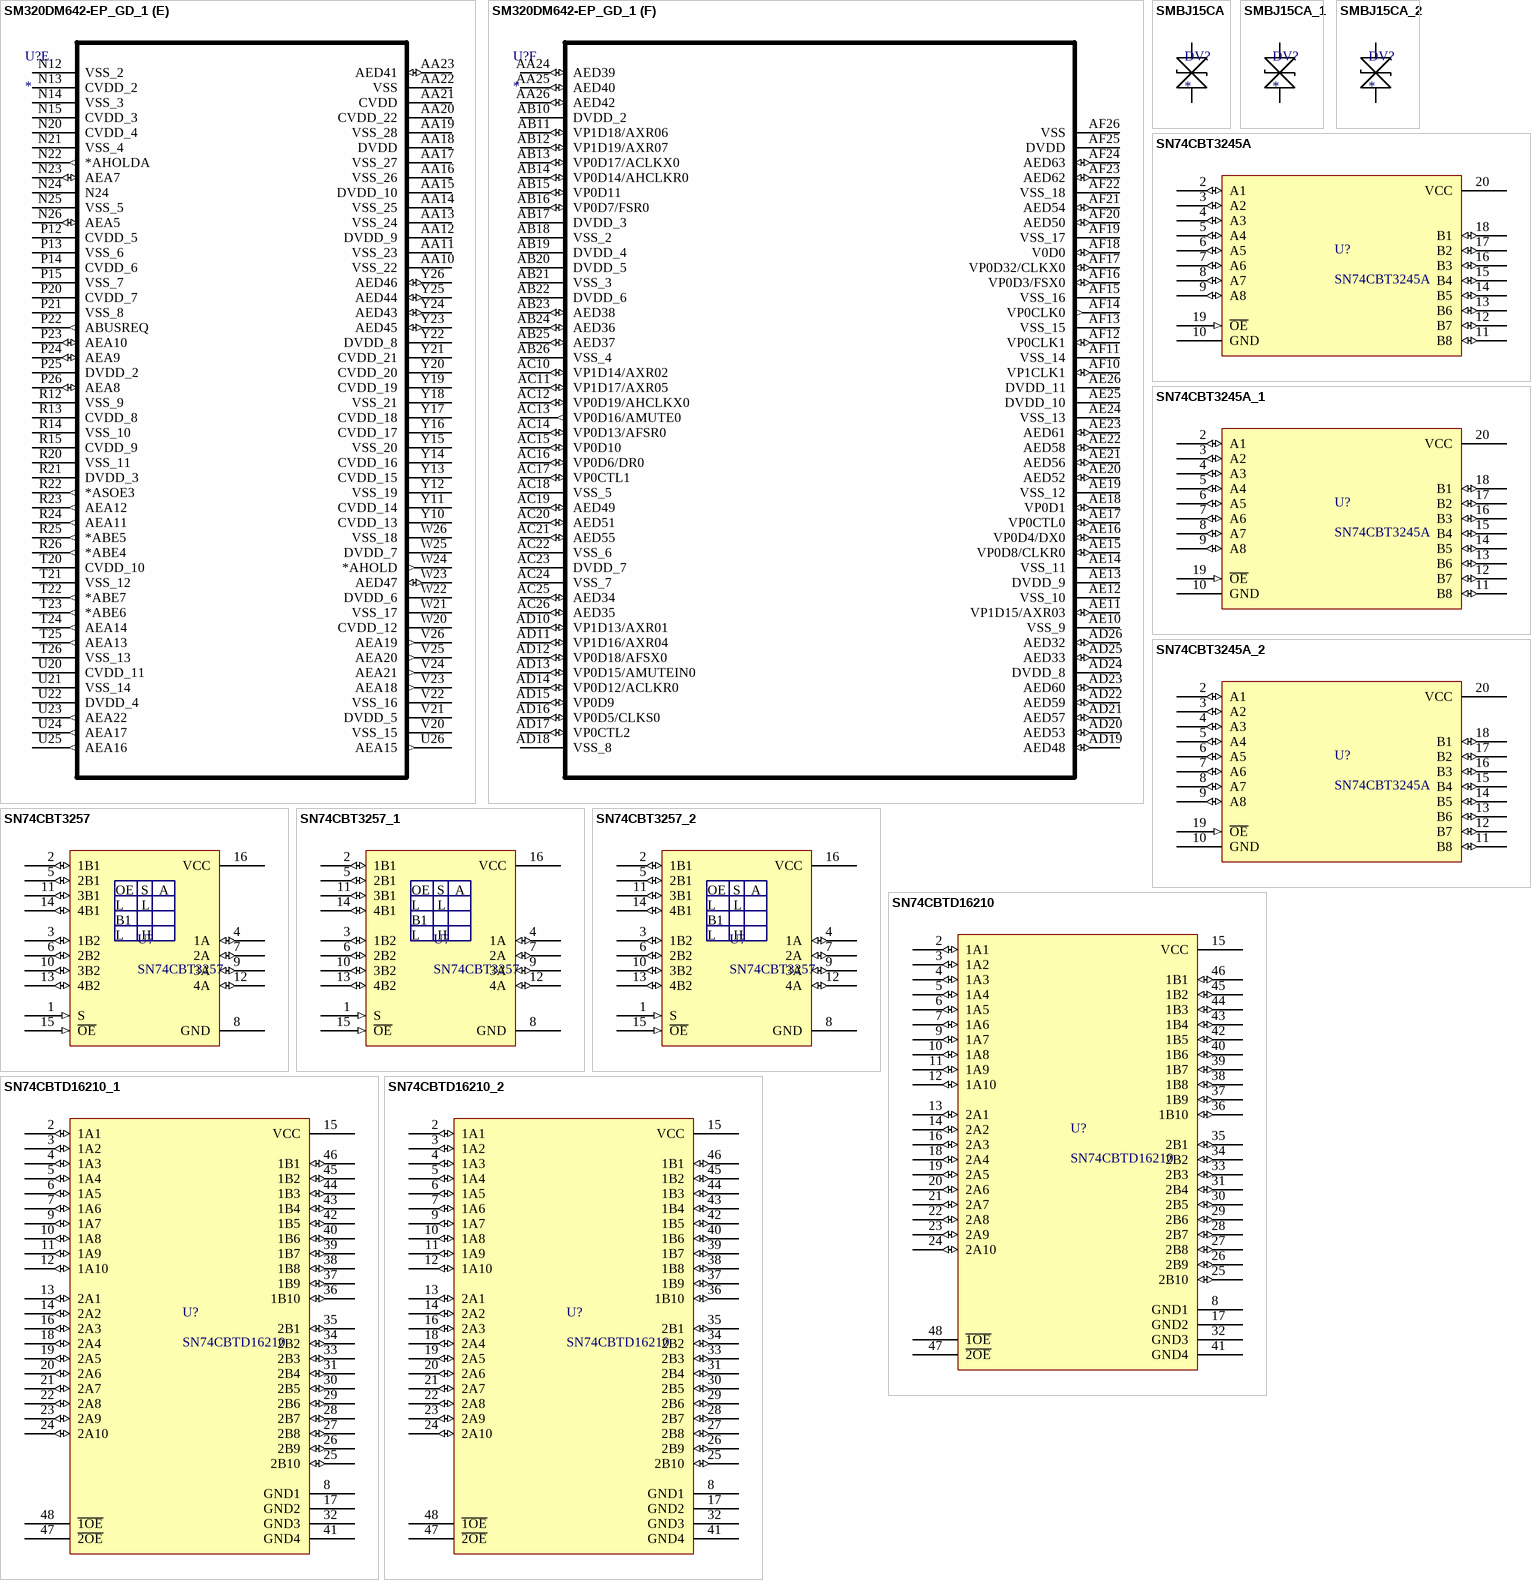
[diagram p22: symbols SM320DM642-EP_GD_1 to SN74CBTD16210_2]